# Altium schematic symbol library MCU_Microchip_PIC18.SchLib: 172 symbols (part 3 of 4)
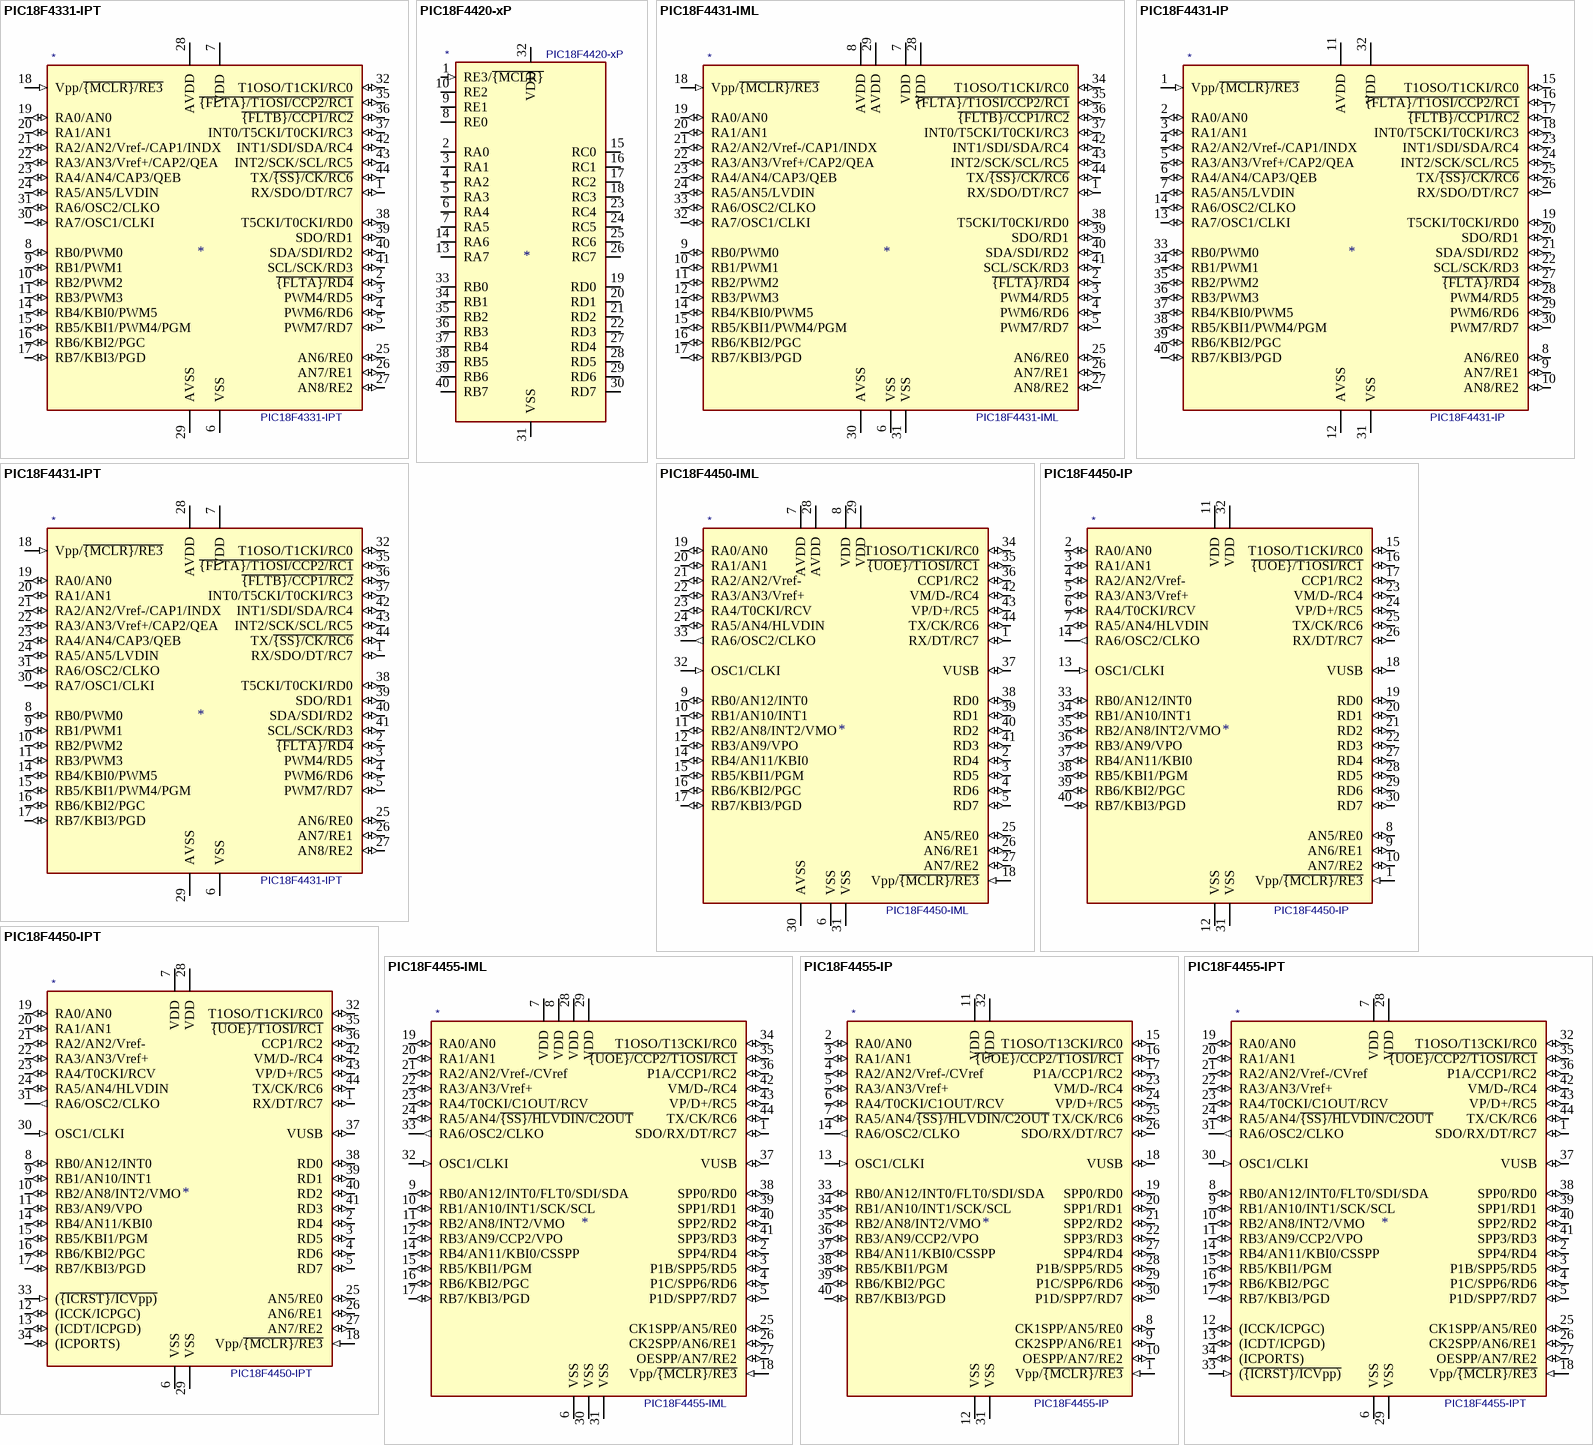
[diagram p18: symbols PIC18F4331-IPT to PIC18F4455-IPT]

## PIC18F4455-IML
designator *  value PIC18F4455-IML
ki_keywords: Flash-Based 8-Bit Microcontroller XLP; ki_description: 24K Flash, 2K SRAM, 256 EEPROM, USB, nanoWatt XLP, QFN44; ki_fp_filters: QFN*1EP*8x8mm*P0.65mm*; Footprint: Package_DFN_QFN:QFN-44-1EP_8x8mm_P0.65mm_EP6.45x6.45mm; Supplier: http://ww1.microchip.com/downloads/en/DeviceDoc/39760d.pdf
footprint QFN-44-1EP_8x8mm_P0.65mm_EP6.45x6.45mm
pins: 1 SDO/RX/DT/RC7 (io), 2 SPP4/RD4 (io), 3 P1B/SPP5/RD5 (io), 4 P1C/SPP6/RD6 (io), 5 P1D/SPP7/RD7 (io), 6 VSS (power), 7 VDD (power), 8 VDD (power), 9 RB0/AN12/INT0/FLT0/SDI/SDA (io), 10 RB1/AN10/INT1/SCK/SCL (io), 11 RB2/AN8/INT2/VMO (io), 12 RB3/AN9/CCP2/VPO (io), 13 NC (in) hidden, 14 RB4/AN11/KBI0/CSSPP (io), 15 RB5/KBI1/PGM (io), 16 RB6/KBI2/PGC (io), 17 RB7/KBI3/PGD (io), 18 Vpp/~{{MCLR}/RE3} (in), 19 RA0/AN0 (io), 20 RA1/AN1 (io), 21 RA2/AN2/Vref-/CVref (io), 22 RA3/AN3/Vref+ (io), 23 RA4/T0CKI/C1OUT/RCV (io), 24 RA5/AN4/~{{SS}/HLVDIN/C2OUT} (io), 25 CK1SPP/AN5/RE0 (io), 26 CK2SPP/AN6/RE1 (io), 27 OESPP/AN7/RE2 (io), 28 VDD (power), 29 VDD (power), 30 VSS (power), 31 VSS (power), 32 OSC1/CLKI (in), 33 RA6/OSC2/CLKO (out), 34 T1OSO/T13CKI/RC0 (io), 35 ~{{UOE}/CCP2/T1OSI/RC1} (io), 36 P1A/CCP1/RC2 (io), 37 VUSB (io), 38 SPP0/RD0 (io), 39 SPP1/RD1 (io), 40 SPP2/RD2 (io), 41 SPP3/RD3 (io), 42 VM/D-/RC4 (io), 43 VP/D+/RC5 (io), 44 TX/CK/RC6 (io)

## PIC18F4455-IP
designator *  value PIC18F4455-IP
ki_keywords: Flash-Based 8-Bit Microcontroller XLP; ki_description: 24K Flash, 2K SRAM, 256 EEPROM, USB, nanoWatt XLP, DIP40; ki_fp_filters: DIP*W15.24mm* PDIP*W15.24mm*; Footprint: Package_DIP:DIP-40_W15.24mm; Supplier: http://ww1.microchip.com/downloads/en/DeviceDoc/39760d.pdf
footprint DIP-40_W15.24mm
pins: 1 Vpp/~{{MCLR}/RE3} (in), 2 RA0/AN0 (io), 3 RA1/AN1 (io), 4 RA2/AN2/Vref-/CVref (io), 5 RA3/AN3/Vref+ (io), 6 RA4/T0CKI/C1OUT/RCV (io), 7 RA5/AN4/~{{SS}/HLVDIN/C2OUT} (io), 8 CK1SPP/AN5/RE0 (io), 9 CK2SPP/AN6/RE1 (io), 10 OESPP/AN7/RE2 (io), 11 VDD (power), 12 VSS (power), 13 OSC1/CLKI (in), 14 RA6/OSC2/CLKO (out), 15 T1OSO/T13CKI/RC0 (io), 16 ~{{UOE}/CCP2/T1OSI/RC1} (io), 17 P1A/CCP1/RC2 (io), 18 VUSB (io), 19 SPP0/RD0 (io), 20 SPP1/RD1 (io), 21 SPP2/RD2 (io), 22 SPP3/RD3 (io), 23 VM/D-/RC4 (io), 24 VP/D+/RC5 (io), 25 TX/CK/RC6 (io), 26 SDO/RX/DT/RC7 (io), 27 SPP4/RD4 (io), 28 P1B/SPP5/RD5 (io), 29 P1C/SPP6/RD6 (io), 30 P1D/SPP7/RD7 (io), 31 VSS (power), 32 VDD (power), 33 RB0/AN12/INT0/FLT0/SDI/SDA (io), 34 RB1/AN10/INT1/SCK/SCL (io), 35 RB2/AN8/INT2/VMO (io), 36 RB3/AN9/CCP2/VPO (io), 37 RB4/AN11/KBI0/CSSPP (io), 38 RB5/KBI1/PGM (io), 39 RB6/KBI2/PGC (io), 40 RB7/KBI3/PGD (io)

## PIC18F4455-IPT
designator *  value PIC18F4455-IPT
ki_keywords: Flash-Based 8-Bit Microcontroller XLP; ki_description: 24K Flash, 2K SRAM, 256 EEPROM, USB, nanoWatt XLP, TQFP44; ki_fp_filters: TQFP*10x10mm*P0.8mm*; Footprint: Package_QFP:TQFP-44_10x10mm_P0.8mm; Supplier: http://ww1.microchip.com/downloads/en/DeviceDoc/39760d.pdf
footprint TQFP-44_10x10mm_P0.8mm
pins: 1 SDO/RX/DT/RC7 (io), 2 SPP4/RD4 (io), 3 P1B/SPP5/RD5 (io), 4 P1C/SPP6/RD6 (io), 5 P1D/SPP7/RD7 (io), 6 VSS (power), 7 VDD (power), 8 RB0/AN12/INT0/FLT0/SDI/SDA (io), 9 RB1/AN10/INT1/SCK/SCL (io), 10 RB2/AN8/INT2/VMO (io), 11 RB3/AN9/CCP2/VPO (io), 12 (ICCK/ICPGC) (io), 13 (ICDT/ICPGD) (io), 14 RB4/AN11/KBI0/CSSPP (io), 15 RB5/KBI1/PGM (io), 16 RB6/KBI2/PGC (io), 17 RB7/KBI3/PGD (io), 18 Vpp/~{{MCLR}/RE3} (in), 19 RA0/AN0 (io), 20 RA1/AN1 (io), 21 RA2/AN2/Vref-/CVref (io), 22 RA3/AN3/Vref+ (io), 23 RA4/T0CKI/C1OUT/RCV (io), 24 RA5/AN4/~{{SS}/HLVDIN/C2OUT} (io), 25 CK1SPP/AN5/RE0 (io), 26 CK2SPP/AN6/RE1 (io), 27 OESPP/AN7/RE2 (io), 28 VDD (power), 29 VSS (power), 30 OSC1/CLKI (in), 31 RA6/OSC2/CLKO (out), 32 T1OSO/T13CKI/RC0 (io), 33 (~{{ICRST}/ICVpp)} (in), 34 (ICPORTS) (io), 35 ~{{UOE}/CCP2/T1OSI/RC1} (io), 36 P1A/CCP1/RC2 (io), 37 VUSB (io), 38 SPP0/RD0 (io), 39 SPP1/RD1 (io), 40 SPP2/RD2 (io), 41 SPP3/RD3 (io), 42 VM/D-/RC4 (io), 43 VP/D+/RC5 (io), 44 TX/CK/RC6 (io)

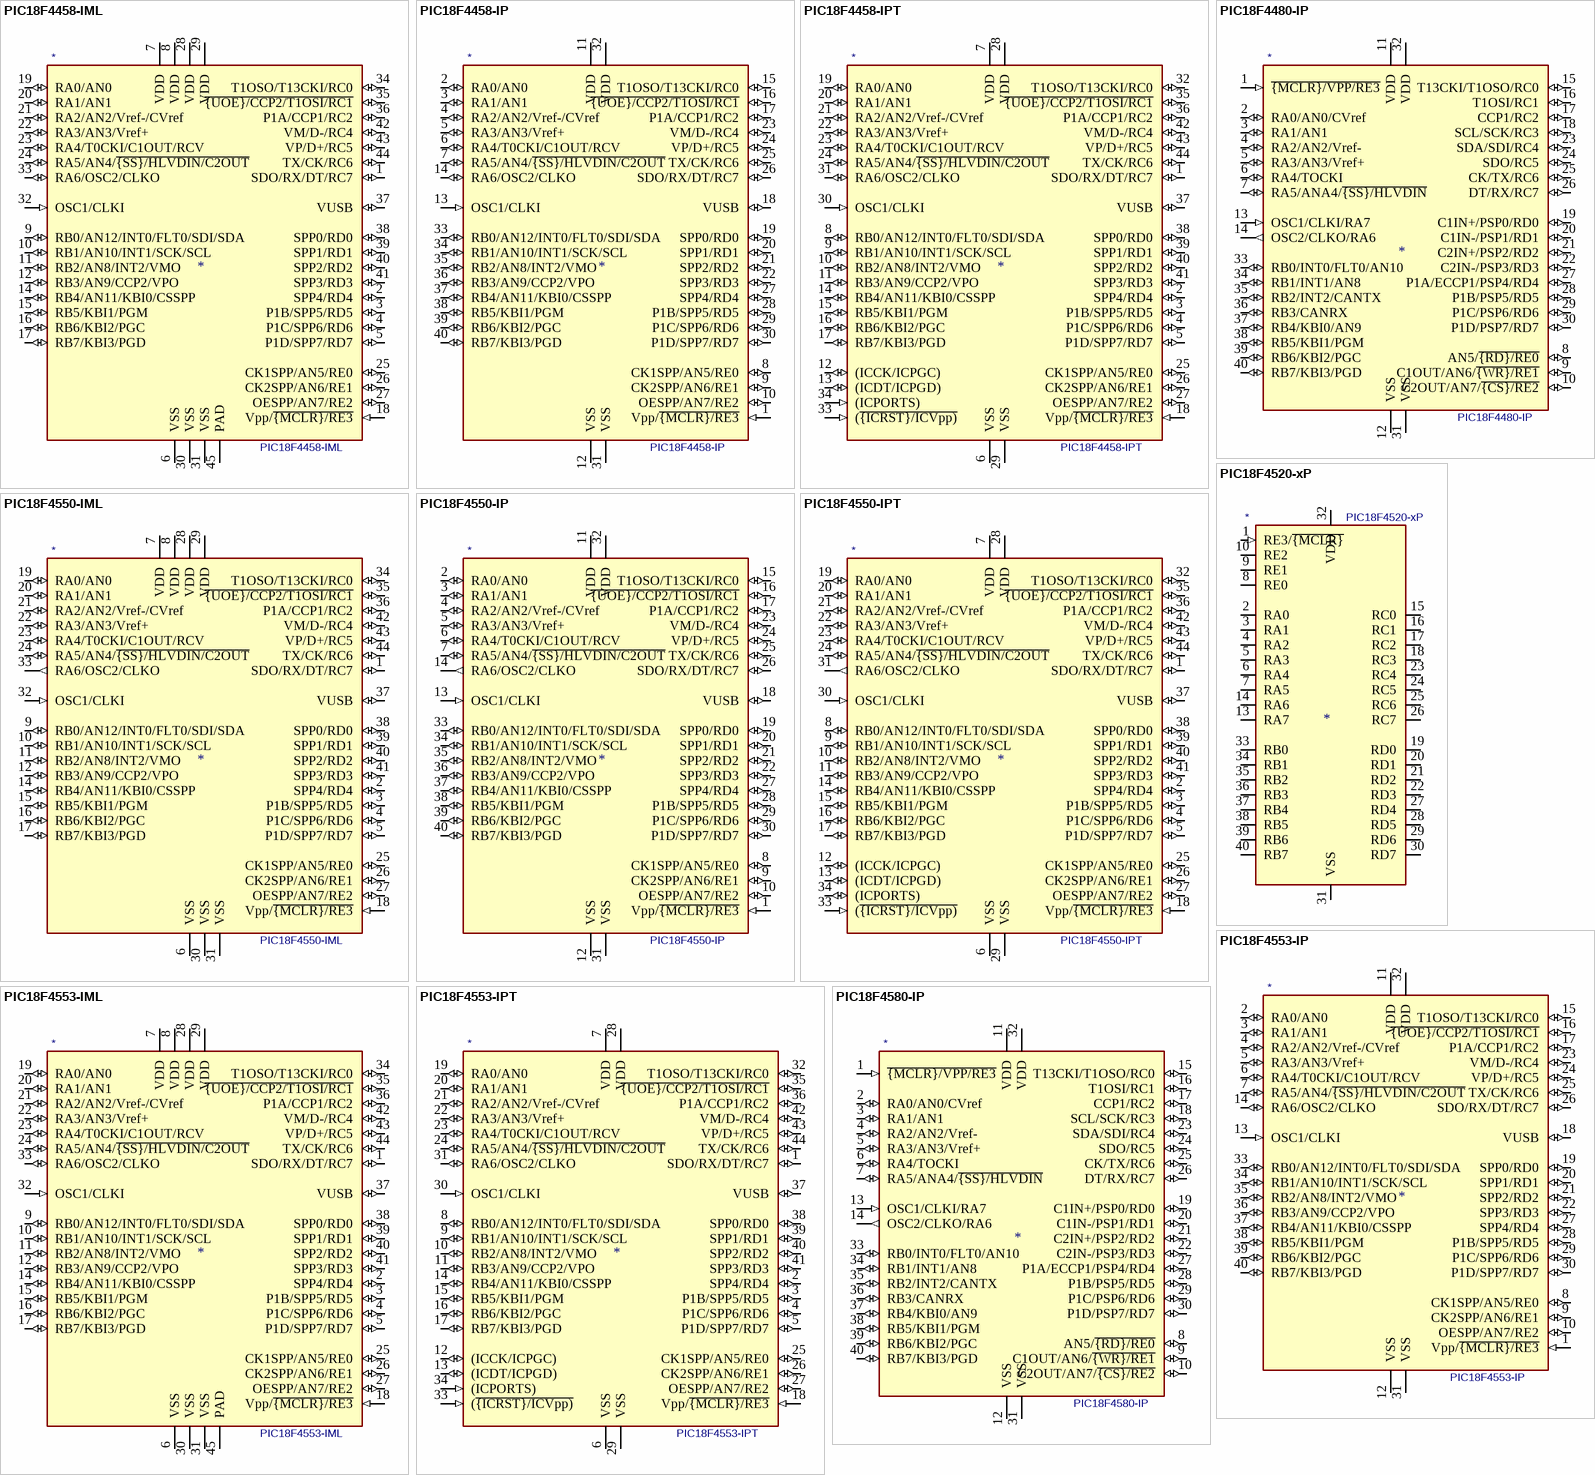
[diagram p9: symbols PIC18F4458-IML to PIC18F4580-IP]

## PIC18F4458-IML
designator *  value PIC18F4458-IML
ki_keywords: Flash-Based 8-Bit Microcontroller XLP; ki_description: 24K Flash, 2K SRAM, 256 EEPROM, USB, 12-Bit A/D, nanoWatt XLP, QFN44; ki_fp_filters: QFN*1EP*8x8mm*P0.65mm*; Footprint: Package_DFN_QFN:QFN-44-1EP_8x8mm_P0.65mm_EP6.45x6.45mm; Supplier: http://ww1.microchip.com/downloads/en/DeviceDoc/39887c.pdf
footprint QFN-44-1EP_8x8mm_P0.65mm_EP6.45x6.45mm
pins: 1 SDO/RX/DT/RC7 (io), 2 SPP4/RD4 (io), 3 P1B/SPP5/RD5 (io), 4 P1C/SPP6/RD6 (io), 5 P1D/SPP7/RD7 (io), 6 VSS (power), 7 VDD (power), 8 VDD (power), 9 RB0/AN12/INT0/FLT0/SDI/SDA (io), 10 RB1/AN10/INT1/SCK/SCL (io), 11 RB2/AN8/INT2/VMO (io), 12 RB3/AN9/CCP2/VPO (io), 13 NC (in) hidden, 14 RB4/AN11/KBI0/CSSPP (io), 15 RB5/KBI1/PGM (io), 16 RB6/KBI2/PGC (io), 17 RB7/KBI3/PGD (io), 18 Vpp/~{{MCLR}/RE3} (in), 19 RA0/AN0 (io), 20 RA1/AN1 (io), 21 RA2/AN2/Vref-/CVref (io), 22 RA3/AN3/Vref+ (io), 23 RA4/T0CKI/C1OUT/RCV (io), 24 RA5/AN4/~{{SS}/HLVDIN/C2OUT} (io), 25 CK1SPP/AN5/RE0 (io), 26 CK2SPP/AN6/RE1 (io), 27 OESPP/AN7/RE2 (io), 28 VDD (power), 29 VDD (power), 30 VSS (power), 31 VSS (power), 32 OSC1/CLKI (in), 33 RA6/OSC2/CLKO (io), 34 T1OSO/T13CKI/RC0 (io), 35 ~{{UOE}/CCP2/T1OSI/RC1} (io), 36 P1A/CCP1/RC2 (io), 37 VUSB (io), 38 SPP0/RD0 (io), 39 SPP1/RD1 (io), 40 SPP2/RD2 (io), 41 SPP3/RD3 (io), 42 VM/D-/RC4 (io), 43 VP/D+/RC5 (io), 44 TX/CK/RC6 (io), 45 PAD (power)

## PIC18F4458-IP
designator *  value PIC18F4458-IP
ki_keywords: Flash-Based 8-Bit Microcontroller XLP; ki_description: 24K Flash, 2K SRAM, 256 EEPROM, USB, 12-Bit A/D, nanoWatt XLP, DIP40; ki_fp_filters: DIP*W15.24mm* PDIP*W15.24mm*; Footprint: Package_DIP:DIP-40_W15.24mm; Supplier: http://ww1.microchip.com/downloads/en/DeviceDoc/39887c.pdf
footprint DIP-40_W15.24mm
pins: 1 Vpp/~{{MCLR}/RE3} (in), 2 RA0/AN0 (io), 3 RA1/AN1 (io), 4 RA2/AN2/Vref-/CVref (io), 5 RA3/AN3/Vref+ (io), 6 RA4/T0CKI/C1OUT/RCV (io), 7 RA5/AN4/~{{SS}/HLVDIN/C2OUT} (io), 8 CK1SPP/AN5/RE0 (io), 9 CK2SPP/AN6/RE1 (io), 10 OESPP/AN7/RE2 (io), 11 VDD (power), 12 VSS (power), 13 OSC1/CLKI (in), 14 RA6/OSC2/CLKO (io), 15 T1OSO/T13CKI/RC0 (io), 16 ~{{UOE}/CCP2/T1OSI/RC1} (io), 17 P1A/CCP1/RC2 (io), 18 VUSB (io), 19 SPP0/RD0 (io), 20 SPP1/RD1 (io), 21 SPP2/RD2 (io), 22 SPP3/RD3 (io), 23 VM/D-/RC4 (io), 24 VP/D+/RC5 (io), 25 TX/CK/RC6 (io), 26 SDO/RX/DT/RC7 (io), 27 SPP4/RD4 (io), 28 P1B/SPP5/RD5 (io), 29 P1C/SPP6/RD6 (io), 30 P1D/SPP7/RD7 (io), 31 VSS (power), 32 VDD (power), 33 RB0/AN12/INT0/FLT0/SDI/SDA (io), 34 RB1/AN10/INT1/SCK/SCL (io), 35 RB2/AN8/INT2/VMO (io), 36 RB3/AN9/CCP2/VPO (io), 37 RB4/AN11/KBI0/CSSPP (io), 38 RB5/KBI1/PGM (io), 39 RB6/KBI2/PGC (io), 40 RB7/KBI3/PGD (io)

## PIC18F4458-IPT
designator *  value PIC18F4458-IPT
ki_keywords: Flash-Based 8-Bit Microcontroller XLP; ki_description: 24K Flash, 2K SRAM, 256 EEPROM, USB, 12-Bit A/D, nanoWatt XLP, TQFP44; ki_fp_filters: TQFP*10x10mm*P0.8mm*; Footprint: Package_QFP:TQFP-44_10x10mm_P0.8mm; Supplier: http://ww1.microchip.com/downloads/en/DeviceDoc/39887c.pdf
footprint TQFP-44_10x10mm_P0.8mm
pins: 1 SDO/RX/DT/RC7 (io), 2 SPP4/RD4 (io), 3 P1B/SPP5/RD5 (io), 4 P1C/SPP6/RD6 (io), 5 P1D/SPP7/RD7 (io), 6 VSS (power), 7 VDD (power), 8 RB0/AN12/INT0/FLT0/SDI/SDA (io), 9 RB1/AN10/INT1/SCK/SCL (io), 10 RB2/AN8/INT2/VMO (io), 11 RB3/AN9/CCP2/VPO (io), 12 (ICCK/ICPGC) (io), 13 (ICDT/ICPGD) (io), 14 RB4/AN11/KBI0/CSSPP (io), 15 RB5/KBI1/PGM (io), 16 RB6/KBI2/PGC (io), 17 RB7/KBI3/PGD (io), 18 Vpp/~{{MCLR}/RE3} (in), 19 RA0/AN0 (io), 20 RA1/AN1 (io), 21 RA2/AN2/Vref-/CVref (io), 22 RA3/AN3/Vref+ (io), 23 RA4/T0CKI/C1OUT/RCV (io), 24 RA5/AN4/~{{SS}/HLVDIN/C2OUT} (io), 25 CK1SPP/AN5/RE0 (io), 26 CK2SPP/AN6/RE1 (io), 27 OESPP/AN7/RE2 (io), 28 VDD (power), 29 VSS (power), 30 OSC1/CLKI (in), 31 RA6/OSC2/CLKO (io), 32 T1OSO/T13CKI/RC0 (io), 33 (~{{ICRST}/ICVpp)} (in), 34 (ICPORTS) (in), 35 ~{{UOE}/CCP2/T1OSI/RC1} (io), 36 P1A/CCP1/RC2 (io), 37 VUSB (io), 38 SPP0/RD0 (io), 39 SPP1/RD1 (io), 40 SPP2/RD2 (io), 41 SPP3/RD3 (io), 42 VM/D-/RC4 (io), 43 VP/D+/RC5 (io), 44 TX/CK/RC6 (io)

## PIC18F4480-IP
designator *  value PIC18F4480-IP
ki_keywords: Flash-Based 8-Bit Microcontroller CAN; ki_description: 32K Flash, 768B SRAM, 256 EEPROM, ECAN, DIP40; ki_fp_filters: DIP*W15.24mm* PDIP*W15.24mm*; Footprint: Package_DIP:DIP-40_W15.24mm; Supplier: http://ww1.microchip.com/downloads/en/DeviceDoc/39637d.pdf
footprint DIP-40_W15.24mm
pins: 1 ~{{MCLR}/VPP/RE3} (in), 2 RA0/AN0/CVref (io), 3 RA1/AN1 (io), 4 RA2/AN2/Vref- (io), 5 RA3/AN3/Vref+ (io), 6 RA4/TOCKI (io), 7 RA5/ANA4/~{{SS}/HLVDIN} (io), 8 AN5/~{{RD}/RE0} (io), 9 C1OUT/AN6/~{{WR}/RE1} (io), 10 C2OUT/AN7/~{{CS}/RE2} (io), 11 VDD (power), 12 VSS (power), 13 OSC1/CLKI/RA7 (in), 14 OSC2/CLKO/RA6 (out), 15 T13CKI/T1OSO/RC0 (io), 16 T1OSI/RC1 (io), 17 CCP1/RC2 (io), 18 SCL/SCK/RC3 (io), 19 C1IN+/PSP0/RD0 (io), 20 C1IN-/PSP1/RD1 (io), 21 C2IN+/PSP2/RD2 (io), 22 C2IN-/PSP3/RD3 (io), 23 SDA/SDI/RC4 (io), 24 SDO/RC5 (io), 25 CK/TX/RC6 (io), 26 DT/RX/RC7 (io), 27 P1A/ECCP1/PSP4/RD4 (io), 28 P1B/PSP5/RD5 (io), 29 P1C/PSP6/RD6 (io), 30 P1D/PSP7/RD7 (io), 31 VSS (power), 32 VDD (power), 33 RB0/INT0/FLT0/AN10 (io), 34 RB1/INT1/AN8 (io), 35 RB2/INT2/CANTX (io), 36 RB3/CANRX (io), 37 RB4/KBI0/AN9 (io), 38 RB5/KBI1/PGM (io), 39 RB6/KBI2/PGC (io), 40 RB7/KBI3/PGD (io)

## PIC18F4520-xP
designator *  value PIC18F4520-xP
ki_keywords: 32K Flash, 1536b SRAM, 256b EEPROM, ADC; ki_description: 32K Flash, 1536b SRAM, 256b EEPROM, ADC, DIP-40; ki_fp_filters: DIP*W15.24mm*; Footprint: Package_DIP:DIP-40_W15.24mm; Supplier: http://ww1.microchip.com/downloads/en/DeviceDoc/39631E.pdf
footprint DIP-40_W15.24mm
pins: 1 RE3/~{{MCLR}} (in), 2 RA0 (io), 3 RA1 (io), 4 RA2 (io), 5 RA3 (io), 6 RA4 (io), 7 RA5 (io), 8 RE0 (io), 9 RE1 (io), 10 RE2 (io), 11 VDD hidden, 12 VSS hidden, 13 RA7 (io), 14 RA6 (io), 15 RC0 (io), 16 RC1 (io), 17 RC2 (io), 18 RC3 (io), 19 RD0 (io), 20 RD1 (io), 21 RD2 (io), 22 RD3 (io), 23 RC4 (io), 24 RC5 (io), 25 RC6 (io), 26 RC7 (io), 27 RD4 (io), 28 RD5 (io), 29 RD6 (io), 30 RD7 (io), 31 VSS (power), 32 VDD (power), 33 RB0 (io), 34 RB1 (io), 35 RB2 (io), 36 RB3 (io), 37 RB4 (io), 38 RB5 (io), 39 RB6 (io), 40 RB7 (io)

## PIC18F4550-IML
designator *  value PIC18F4550-IML
ki_keywords: Flash-Based 8-Bit Microcontroller XLP; ki_description: 32K Flash, 2K SRAM, 256 EEPROM, USB, nanoWatt XLP, QFN44; ki_fp_filters: QFN*1EP*8x8mm*P0.65mm*; Footprint: Package_DFN_QFN:QFN-44-1EP_8x8mm_P0.65mm_EP6.45x6.45mm; Supplier: http://ww1.microchip.com/downloads/en/DeviceDoc/39760d.pdf
footprint QFN-44-1EP_8x8mm_P0.65mm_EP6.45x6.45mm
pins: 1 SDO/RX/DT/RC7 (io), 2 SPP4/RD4 (io), 3 P1B/SPP5/RD5 (io), 4 P1C/SPP6/RD6 (io), 5 P1D/SPP7/RD7 (io), 6 VSS (power), 7 VDD (power), 8 VDD (power), 9 RB0/AN12/INT0/FLT0/SDI/SDA (io), 10 RB1/AN10/INT1/SCK/SCL (io), 11 RB2/AN8/INT2/VMO (io), 12 RB3/AN9/CCP2/VPO (io), 13 NC (in) hidden, 14 RB4/AN11/KBI0/CSSPP (io), 15 RB5/KBI1/PGM (io), 16 RB6/KBI2/PGC (io), 17 RB7/KBI3/PGD (io), 18 Vpp/~{{MCLR}/RE3} (in), 19 RA0/AN0 (io), 20 RA1/AN1 (io), 21 RA2/AN2/Vref-/CVref (io), 22 RA3/AN3/Vref+ (io), 23 RA4/T0CKI/C1OUT/RCV (io), 24 RA5/AN4/~{{SS}/HLVDIN/C2OUT} (io), 25 CK1SPP/AN5/RE0 (io), 26 CK2SPP/AN6/RE1 (io), 27 OESPP/AN7/RE2 (io), 28 VDD (power), 29 VDD (power), 30 VSS (power), 31 VSS (power), 32 OSC1/CLKI (in), 33 RA6/OSC2/CLKO (out), 34 T1OSO/T13CKI/RC0 (io), 35 ~{{UOE}/CCP2/T1OSI/RC1} (io), 36 P1A/CCP1/RC2 (io), 37 VUSB (io), 38 SPP0/RD0 (io), 39 SPP1/RD1 (io), 40 SPP2/RD2 (io), 41 SPP3/RD3 (io), 42 VM/D-/RC4 (io), 43 VP/D+/RC5 (io), 44 TX/CK/RC6 (io)

## PIC18F4550-IP
designator *  value PIC18F4550-IP
ki_keywords: Flash-Based 8-Bit Microcontroller XLP; ki_description: 32K Flash, 2K SRAM, 256 EEPROM, USB, nanoWatt XLP, DIP40; ki_fp_filters: DIP*W15.24mm* PDIP*W15.24mm*; Footprint: Package_DIP:DIP-40_W15.24mm; Supplier: http://ww1.microchip.com/downloads/en/DeviceDoc/39760d.pdf
footprint DIP-40_W15.24mm
pins: 1 Vpp/~{{MCLR}/RE3} (in), 2 RA0/AN0 (io), 3 RA1/AN1 (io), 4 RA2/AN2/Vref-/CVref (io), 5 RA3/AN3/Vref+ (io), 6 RA4/T0CKI/C1OUT/RCV (io), 7 RA5/AN4/~{{SS}/HLVDIN/C2OUT} (io), 8 CK1SPP/AN5/RE0 (io), 9 CK2SPP/AN6/RE1 (io), 10 OESPP/AN7/RE2 (io), 11 VDD (power), 12 VSS (power), 13 OSC1/CLKI (in), 14 RA6/OSC2/CLKO (out), 15 T1OSO/T13CKI/RC0 (io), 16 ~{{UOE}/CCP2/T1OSI/RC1} (io), 17 P1A/CCP1/RC2 (io), 18 VUSB (io), 19 SPP0/RD0 (io), 20 SPP1/RD1 (io), 21 SPP2/RD2 (io), 22 SPP3/RD3 (io), 23 VM/D-/RC4 (io), 24 VP/D+/RC5 (io), 25 TX/CK/RC6 (io), 26 SDO/RX/DT/RC7 (io), 27 SPP4/RD4 (io), 28 P1B/SPP5/RD5 (io), 29 P1C/SPP6/RD6 (io), 30 P1D/SPP7/RD7 (io), 31 VSS (power), 32 VDD (power), 33 RB0/AN12/INT0/FLT0/SDI/SDA (io), 34 RB1/AN10/INT1/SCK/SCL (io), 35 RB2/AN8/INT2/VMO (io), 36 RB3/AN9/CCP2/VPO (io), 37 RB4/AN11/KBI0/CSSPP (io), 38 RB5/KBI1/PGM (io), 39 RB6/KBI2/PGC (io), 40 RB7/KBI3/PGD (io)

## PIC18F4550-IPT
designator *  value PIC18F4550-IPT
ki_keywords: Flash-Based 8-Bit Microcontroller XLP; ki_description: 32K Flash, 2K SRAM, 256 EEPROM, USB, nanoWatt XLP, TQFP44; ki_fp_filters: TQFP*10x10mm*P0.8mm*; Footprint: Package_QFP:TQFP-44_10x10mm_P0.8mm; Supplier: http://ww1.microchip.com/downloads/en/DeviceDoc/39760d.pdf
footprint TQFP-44_10x10mm_P0.8mm
pins: 1 SDO/RX/DT/RC7 (io), 2 SPP4/RD4 (io), 3 P1B/SPP5/RD5 (io), 4 P1C/SPP6/RD6 (io), 5 P1D/SPP7/RD7 (io), 6 VSS (power), 7 VDD (power), 8 RB0/AN12/INT0/FLT0/SDI/SDA (io), 9 RB1/AN10/INT1/SCK/SCL (io), 10 RB2/AN8/INT2/VMO (io), 11 RB3/AN9/CCP2/VPO (io), 12 (ICCK/ICPGC) (io), 13 (ICDT/ICPGD) (io), 14 RB4/AN11/KBI0/CSSPP (io), 15 RB5/KBI1/PGM (io), 16 RB6/KBI2/PGC (io), 17 RB7/KBI3/PGD (io), 18 Vpp/~{{MCLR}/RE3} (in), 19 RA0/AN0 (io), 20 RA1/AN1 (io), 21 RA2/AN2/Vref-/CVref (io), 22 RA3/AN3/Vref+ (io), 23 RA4/T0CKI/C1OUT/RCV (io), 24 RA5/AN4/~{{SS}/HLVDIN/C2OUT} (io), 25 CK1SPP/AN5/RE0 (io), 26 CK2SPP/AN6/RE1 (io), 27 OESPP/AN7/RE2 (io), 28 VDD (power), 29 VSS (power), 30 OSC1/CLKI (in), 31 RA6/OSC2/CLKO (out), 32 T1OSO/T13CKI/RC0 (io), 33 (~{{ICRST}/ICVpp)} (in), 34 (ICPORTS) (io), 35 ~{{UOE}/CCP2/T1OSI/RC1} (io), 36 P1A/CCP1/RC2 (io), 37 VUSB (io), 38 SPP0/RD0 (io), 39 SPP1/RD1 (io), 40 SPP2/RD2 (io), 41 SPP3/RD3 (io), 42 VM/D-/RC4 (io), 43 VP/D+/RC5 (io), 44 TX/CK/RC6 (io)

## PIC18F4553-IML
designator *  value PIC18F4553-IML
ki_keywords: Flash-Based 8-Bit Microcontroller XLP; ki_description: 32K Flash, 2K SRAM, 256 EEPROM, USB, 12-Bit A/D, nanoWatt XLP, QFN44; ki_fp_filters: QFN*1EP*8x8mm*P0.65mm*; Footprint: Package_DFN_QFN:QFN-44-1EP_8x8mm_P0.65mm_EP6.45x6.45mm; Supplier: http://ww1.microchip.com/downloads/en/DeviceDoc/39887c.pdf
footprint QFN-44-1EP_8x8mm_P0.65mm_EP6.45x6.45mm
pins: 1 SDO/RX/DT/RC7 (io), 2 SPP4/RD4 (io), 3 P1B/SPP5/RD5 (io), 4 P1C/SPP6/RD6 (io), 5 P1D/SPP7/RD7 (io), 6 VSS (power), 7 VDD (power), 8 VDD (power), 9 RB0/AN12/INT0/FLT0/SDI/SDA (io), 10 RB1/AN10/INT1/SCK/SCL (io), 11 RB2/AN8/INT2/VMO (io), 12 RB3/AN9/CCP2/VPO (io), 13 NC (in) hidden, 14 RB4/AN11/KBI0/CSSPP (io), 15 RB5/KBI1/PGM (io), 16 RB6/KBI2/PGC (io), 17 RB7/KBI3/PGD (io), 18 Vpp/~{{MCLR}/RE3} (in), 19 RA0/AN0 (io), 20 RA1/AN1 (io), 21 RA2/AN2/Vref-/CVref (io), 22 RA3/AN3/Vref+ (io), 23 RA4/T0CKI/C1OUT/RCV (io), 24 RA5/AN4/~{{SS}/HLVDIN/C2OUT} (io), 25 CK1SPP/AN5/RE0 (io), 26 CK2SPP/AN6/RE1 (io), 27 OESPP/AN7/RE2 (io), 28 VDD (power), 29 VDD (power), 30 VSS (power), 31 VSS (power), 32 OSC1/CLKI (in), 33 RA6/OSC2/CLKO (io), 34 T1OSO/T13CKI/RC0 (io), 35 ~{{UOE}/CCP2/T1OSI/RC1} (io), 36 P1A/CCP1/RC2 (io), 37 VUSB (io), 38 SPP0/RD0 (io), 39 SPP1/RD1 (io), 40 SPP2/RD2 (io), 41 SPP3/RD3 (io), 42 VM/D-/RC4 (io), 43 VP/D+/RC5 (io), 44 TX/CK/RC6 (io), 45 PAD (power)

## PIC18F4553-IP
designator *  value PIC18F4553-IP
ki_keywords: Flash-Based 8-Bit Microcontroller XLP; ki_description: 32K Flash, 2K SRAM, 256 EEPROM, USB, 12-Bit A/D, nanoWatt XLP, DIP40; ki_fp_filters: DIP*W15.24mm* PDIP*W15.24mm*; Footprint: Package_DIP:DIP-40_W15.24mm; Supplier: http://ww1.microchip.com/downloads/en/DeviceDoc/39887c.pdf
footprint DIP-40_W15.24mm
pins: 1 Vpp/~{{MCLR}/RE3} (in), 2 RA0/AN0 (io), 3 RA1/AN1 (io), 4 RA2/AN2/Vref-/CVref (io), 5 RA3/AN3/Vref+ (io), 6 RA4/T0CKI/C1OUT/RCV (io), 7 RA5/AN4/~{{SS}/HLVDIN/C2OUT} (io), 8 CK1SPP/AN5/RE0 (io), 9 CK2SPP/AN6/RE1 (io), 10 OESPP/AN7/RE2 (io), 11 VDD (power), 12 VSS (power), 13 OSC1/CLKI (in), 14 RA6/OSC2/CLKO (io), 15 T1OSO/T13CKI/RC0 (io), 16 ~{{UOE}/CCP2/T1OSI/RC1} (io), 17 P1A/CCP1/RC2 (io), 18 VUSB (io), 19 SPP0/RD0 (io), 20 SPP1/RD1 (io), 21 SPP2/RD2 (io), 22 SPP3/RD3 (io), 23 VM/D-/RC4 (io), 24 VP/D+/RC5 (io), 25 TX/CK/RC6 (io), 26 SDO/RX/DT/RC7 (io), 27 SPP4/RD4 (io), 28 P1B/SPP5/RD5 (io), 29 P1C/SPP6/RD6 (io), 30 P1D/SPP7/RD7 (io), 31 VSS (power), 32 VDD (power), 33 RB0/AN12/INT0/FLT0/SDI/SDA (io), 34 RB1/AN10/INT1/SCK/SCL (io), 35 RB2/AN8/INT2/VMO (io), 36 RB3/AN9/CCP2/VPO (io), 37 RB4/AN11/KBI0/CSSPP (io), 38 RB5/KBI1/PGM (io), 39 RB6/KBI2/PGC (io), 40 RB7/KBI3/PGD (io)

## PIC18F4553-IPT
designator *  value PIC18F4553-IPT
ki_keywords: Flash-Based 8-Bit Microcontroller XLP; ki_description: 32K Flash, 2K SRAM, 256 EEPROM, USB, 12-Bit A/D, nanoWatt XLP, TQFP44; ki_fp_filters: TQFP*10x10mm*P0.8mm*; Footprint: Package_QFP:TQFP-44_10x10mm_P0.8mm; Supplier: http://ww1.microchip.com/downloads/en/DeviceDoc/39887c.pdf
footprint TQFP-44_10x10mm_P0.8mm
pins: 1 SDO/RX/DT/RC7 (io), 2 SPP4/RD4 (io), 3 P1B/SPP5/RD5 (io), 4 P1C/SPP6/RD6 (io), 5 P1D/SPP7/RD7 (io), 6 VSS (power), 7 VDD (power), 8 RB0/AN12/INT0/FLT0/SDI/SDA (io), 9 RB1/AN10/INT1/SCK/SCL (io), 10 RB2/AN8/INT2/VMO (io), 11 RB3/AN9/CCP2/VPO (io), 12 (ICCK/ICPGC) (io), 13 (ICDT/ICPGD) (io), 14 RB4/AN11/KBI0/CSSPP (io), 15 RB5/KBI1/PGM (io), 16 RB6/KBI2/PGC (io), 17 RB7/KBI3/PGD (io), 18 Vpp/~{{MCLR}/RE3} (in), 19 RA0/AN0 (io), 20 RA1/AN1 (io), 21 RA2/AN2/Vref-/CVref (io), 22 RA3/AN3/Vref+ (io), 23 RA4/T0CKI/C1OUT/RCV (io), 24 RA5/AN4/~{{SS}/HLVDIN/C2OUT} (io), 25 CK1SPP/AN5/RE0 (io), 26 CK2SPP/AN6/RE1 (io), 27 OESPP/AN7/RE2 (io), 28 VDD (power), 29 VSS (power), 30 OSC1/CLKI (in), 31 RA6/OSC2/CLKO (io), 32 T1OSO/T13CKI/RC0 (io), 33 (~{{ICRST}/ICVpp)} (in), 34 (ICPORTS) (in), 35 ~{{UOE}/CCP2/T1OSI/RC1} (io), 36 P1A/CCP1/RC2 (io), 37 VUSB (io), 38 SPP0/RD0 (io), 39 SPP1/RD1 (io), 40 SPP2/RD2 (io), 41 SPP3/RD3 (io), 42 VM/D-/RC4 (io), 43 VP/D+/RC5 (io), 44 TX/CK/RC6 (io)

## PIC18F4580-IP
designator *  value PIC18F4580-IP
ki_keywords: Flash-Based 8-Bit Microcontroller CAN; ki_description: 32K Flash, 1536B SRAM, 256 EEPROM, ECAN, DIP40; ki_fp_filters: DIP*W15.24mm* PDIP*W15.24mm*; Footprint: Package_DIP:DIP-40_W15.24mm; Supplier: http://ww1.microchip.com/downloads/en/DeviceDoc/39637d.pdf
footprint DIP-40_W15.24mm
pins: 1 ~{{MCLR}/VPP/RE3} (in), 2 RA0/AN0/CVref (io), 3 RA1/AN1 (io), 4 RA2/AN2/Vref- (io), 5 RA3/AN3/Vref+ (io), 6 RA4/TOCKI (io), 7 RA5/ANA4/~{{SS}/HLVDIN} (io), 8 AN5/~{{RD}/RE0} (io), 9 C1OUT/AN6/~{{WR}/RE1} (io), 10 C2OUT/AN7/~{{CS}/RE2} (io), 11 VDD (power), 12 VSS (power), 13 OSC1/CLKI/RA7 (in), 14 OSC2/CLKO/RA6 (out), 15 T13CKI/T1OSO/RC0 (io), 16 T1OSI/RC1 (io), 17 CCP1/RC2 (io), 18 SCL/SCK/RC3 (io), 19 C1IN+/PSP0/RD0 (io), 20 C1IN-/PSP1/RD1 (io), 21 C2IN+/PSP2/RD2 (io), 22 C2IN-/PSP3/RD3 (io), 23 SDA/SDI/RC4 (io), 24 SDO/RC5 (io), 25 CK/TX/RC6 (io), 26 DT/RX/RC7 (io), 27 P1A/ECCP1/PSP4/RD4 (io), 28 P1B/PSP5/RD5 (io), 29 P1C/PSP6/RD6 (io), 30 P1D/PSP7/RD7 (io), 31 VSS (power), 32 VDD (power), 33 RB0/INT0/FLT0/AN10 (io), 34 RB1/INT1/AN8 (io), 35 RB2/INT2/CANTX (io), 36 RB3/CANRX (io), 37 RB4/KBI0/AN9 (io), 38 RB5/KBI1/PGM (io), 39 RB6/KBI2/PGC (io), 40 RB7/KBI3/PGD (io)

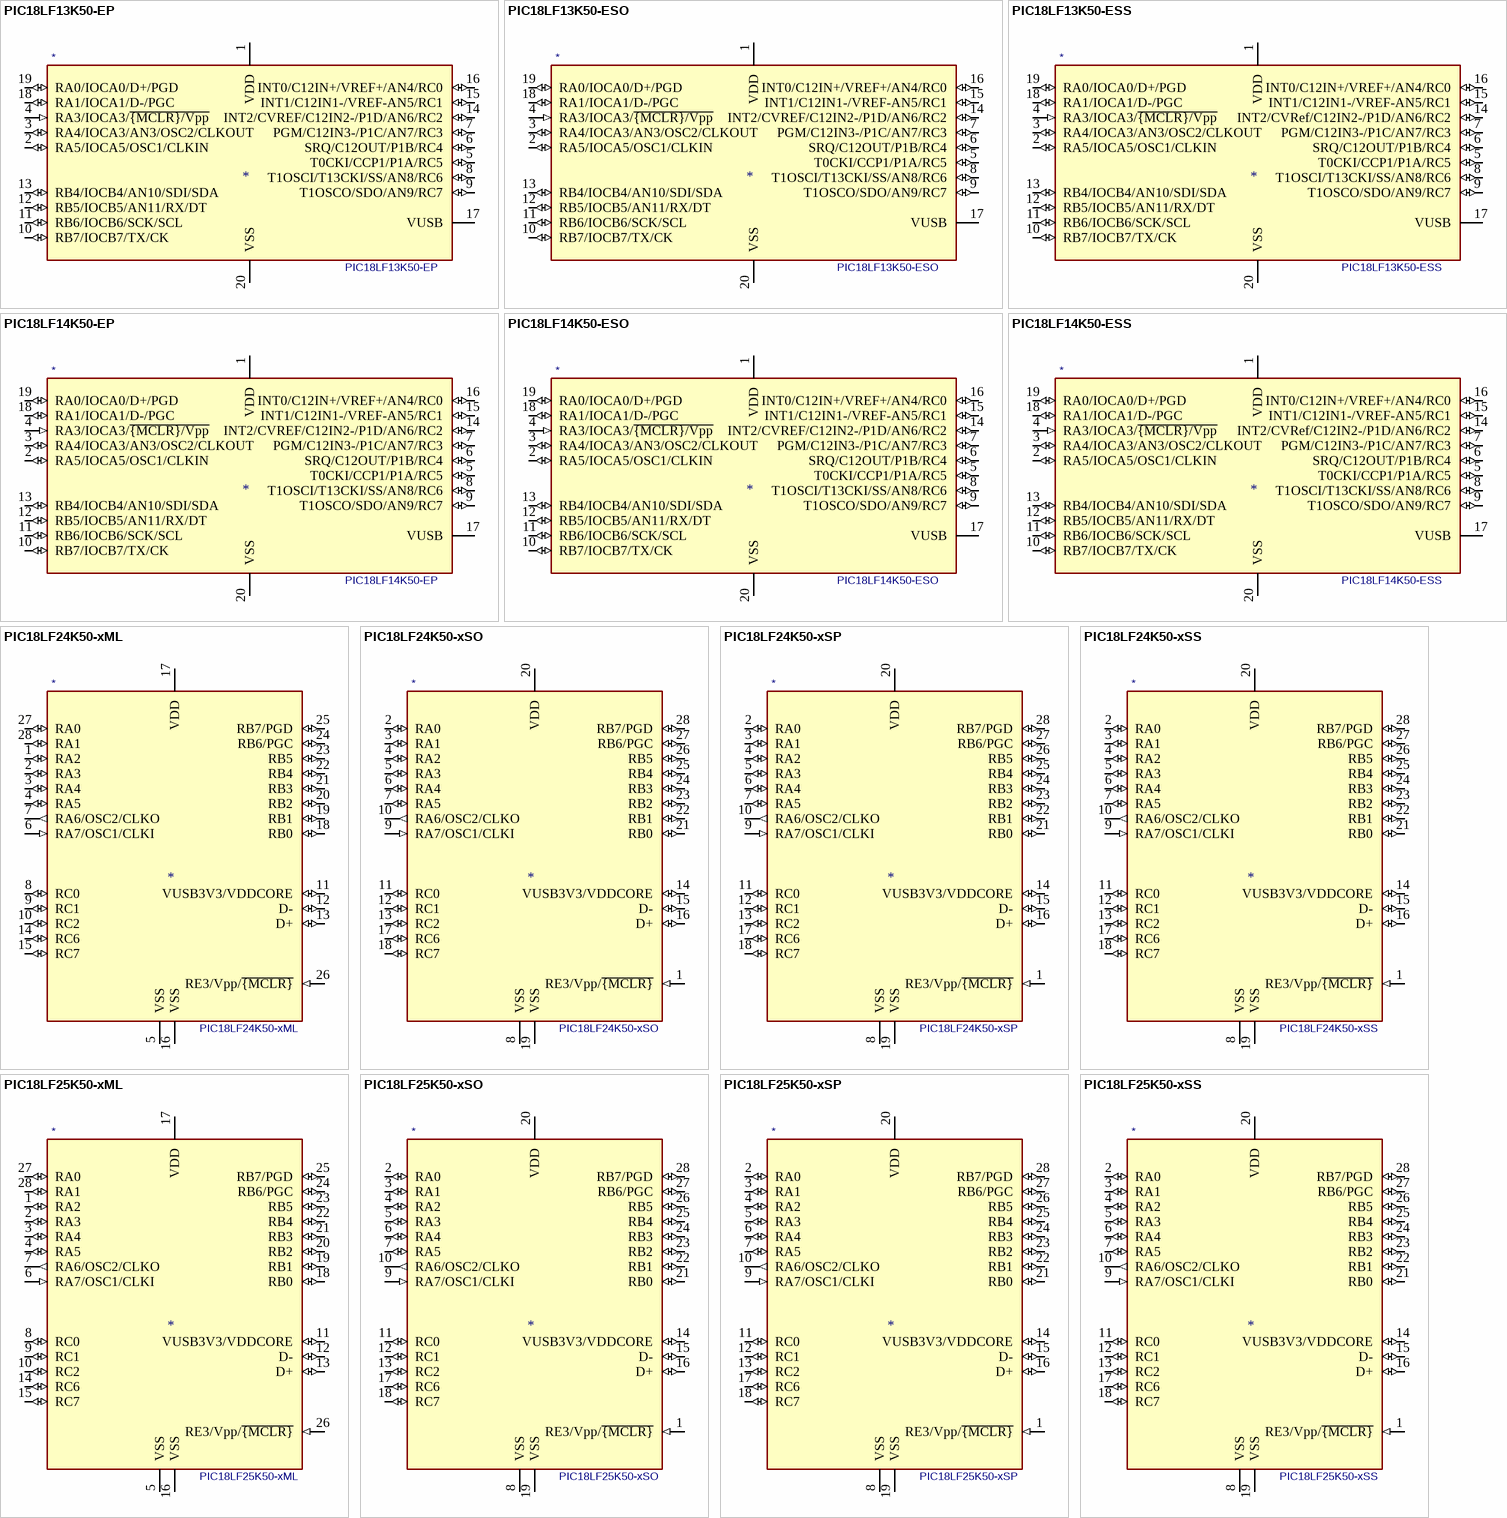
[diagram p10: symbols PIC18LF13K50-EP to PIC18LF25K50-xSS]

## PIC18LF13K50-EP
designator *  value PIC18LF13K50-EP
ki_keywords: Flash-Based 8bit CMOS Microcontroller XLP; ki_description: 8K Flash, 512 SRAM, 256 EEPROM, USB, nanoWatt XLP, DIP20; ki_fp_filters: DIP*W7.62mm* PDIP*W7.62mm*; Footprint: Package_DIP:DIP-20_W7.62mm; Supplier: http://ww1.microchip.com/downloads/en/devicedoc/41350c.pdf
footprint DIP-20_W7.62mm
pins: 1 VDD (power), 2 RA5/IOCA5/OSC1/CLKIN (io), 3 RA4/IOCA3/AN3/OSC2/CLKOUT (io), 4 RA3/IOCA3/~{{MCLR}/Vpp} (in), 5 T0CKI/CCP1/P1A/RC5 (io), 6 SRQ/C12OUT/P1B/RC4 (io), 7 PGM/C12IN3-/P1C/AN7/RC3 (io), 8 T1OSCI/T13CKI/SS/AN8/RC6 (io), 9 T1OSCO/SDO/AN9/RC7 (io), 10 RB7/IOCB7/TX/CK (io), 11 RB6/IOCB6/SCK/SCL (io), 12 RB5/IOCB5/AN11/RX/DT (io), 13 RB4/IOCB4/AN10/SDI/SDA (io), 14 INT2/CVREF/C12IN2-/P1D/AN6/RC2 (io), 15 INT1/C12IN1-/VREF-AN5/RC1 (io), 16 INT0/C12IN+/VREF+/AN4/RC0 (io), 17 VUSB, 18 RA1/IOCA1/D-/PGC (io), 19 RA0/IOCA0/D+/PGD (io), 20 VSS (power)

## PIC18LF13K50-ESO
designator *  value PIC18LF13K50-ESO
ki_keywords: Flash-Based 8bit CMOS Microcontroller XLP; ki_description: 8K Flash, 512 SRAM, 256 EEPROM, USB, nanoWatt XLP, SOIC20; ki_fp_filters: SOIC*W*7.5x12.8mm*P1.27mm*; Footprint: Package_SO:SOIC-20W_7.5x12.8mm_P1.27mm; Supplier: http://ww1.microchip.com/downloads/en/devicedoc/41350c.pdf
footprint SOIC-20W_7.5x12.8mm_P1.27mm
pins: 1 VDD (power), 2 RA5/IOCA5/OSC1/CLKIN (io), 3 RA4/IOCA3/AN3/OSC2/CLKOUT (io), 4 RA3/IOCA3/~{{MCLR}/Vpp} (in), 5 T0CKI/CCP1/P1A/RC5 (io), 6 SRQ/C12OUT/P1B/RC4 (io), 7 PGM/C12IN3-/P1C/AN7/RC3 (io), 8 T1OSCI/T13CKI/SS/AN8/RC6 (io), 9 T1OSCO/SDO/AN9/RC7 (io), 10 RB7/IOCB7/TX/CK (io), 11 RB6/IOCB6/SCK/SCL (io), 12 RB5/IOCB5/AN11/RX/DT (io), 13 RB4/IOCB4/AN10/SDI/SDA (io), 14 INT2/CVREF/C12IN2-/P1D/AN6/RC2 (io), 15 INT1/C12IN1-/VREF-AN5/RC1 (io), 16 INT0/C12IN+/VREF+/AN4/RC0 (io), 17 VUSB, 18 RA1/IOCA1/D-/PGC (io), 19 RA0/IOCA0/D+/PGD (io), 20 VSS (power)

## PIC18LF13K50-ESS
designator *  value PIC18LF13K50-ESS
ki_keywords: Flash-Based 8bit CMOS Microcontroller XLP; ki_description: 8K Flash, 512 SRAM, 256 EEPROM, USB, nanoWatt XLP, SSOP20; ki_fp_filters: SSOP*5.3x7.2mm*P0.65mm*; Footprint: Package_SO:SSOP-20_5.3x7.2mm_P0.65mm; Supplier: http://ww1.microchip.com/downloads/en/devicedoc/41350c.pdf
footprint SSOP-20_5.3x7.2mm_P0.65mm
pins: 1 VDD (power), 2 RA5/IOCA5/OSC1/CLKIN (io), 3 RA4/IOCA3/AN3/OSC2/CLKOUT (io), 4 RA3/IOCA3/~{{MCLR}/Vpp} (in), 5 T0CKI/CCP1/P1A/RC5 (io), 6 SRQ/C12OUT/P1B/RC4 (io), 7 PGM/C12IN3-/P1C/AN7/RC3 (io), 8 T1OSCI/T13CKI/SS/AN8/RC6 (io), 9 T1OSCO/SDO/AN9/RC7 (io), 10 RB7/IOCB7/TX/CK (io), 11 RB6/IOCB6/SCK/SCL (io), 12 RB5/IOCB5/AN11/RX/DT (io), 13 RB4/IOCB4/AN10/SDI/SDA (io), 14 INT2/CVRef/C12IN2-/P1D/AN6/RC2 (io), 15 INT1/C12IN1-/VREF-AN5/RC1 (io), 16 INT0/C12IN+/VREF+/AN4/RC0 (io), 17 VUSB, 18 RA1/IOCA1/D-/PGC (io), 19 RA0/IOCA0/D+/PGD (io), 20 VSS (power)

## PIC18LF14K50-EP
designator *  value PIC18LF14K50-EP
ki_keywords: Flash-Based 8bit CMOS Microcontroller XLP; ki_description: 16K Flash, 768 SRAM, 256 EEPROM, USB, nanoWatt XLP, DIP20; ki_fp_filters: DIP*W7.62mm* PDIP*W7.62mm*; Footprint: Package_DIP:DIP-20_W7.62mm; Supplier: http://ww1.microchip.com/downloads/en/devicedoc/41350c.pdf
footprint DIP-20_W7.62mm
pins: 1 VDD (power), 2 RA5/IOCA5/OSC1/CLKIN (io), 3 RA4/IOCA3/AN3/OSC2/CLKOUT (io), 4 RA3/IOCA3/~{{MCLR}/Vpp} (in), 5 T0CKI/CCP1/P1A/RC5 (io), 6 SRQ/C12OUT/P1B/RC4 (io), 7 PGM/C12IN3-/P1C/AN7/RC3 (io), 8 T1OSCI/T13CKI/SS/AN8/RC6 (io), 9 T1OSCO/SDO/AN9/RC7 (io), 10 RB7/IOCB7/TX/CK (io), 11 RB6/IOCB6/SCK/SCL (io), 12 RB5/IOCB5/AN11/RX/DT (io), 13 RB4/IOCB4/AN10/SDI/SDA (io), 14 INT2/CVREF/C12IN2-/P1D/AN6/RC2 (io), 15 INT1/C12IN1-/VREF-AN5/RC1 (io), 16 INT0/C12IN+/VREF+/AN4/RC0 (io), 17 VUSB, 18 RA1/IOCA1/D-/PGC (io), 19 RA0/IOCA0/D+/PGD (io), 20 VSS (power)

## PIC18LF14K50-ESO
designator *  value PIC18LF14K50-ESO
ki_keywords: Flash-Based 8bit CMOS Microcontroller XLP; ki_description: 16K Flash, 768 SRAM, 256 EEPROM, USB, nanoWatt XLP, SOIC20; ki_fp_filters: SOIC*W*7.5x12.8mm*P1.27mm*; Footprint: Package_SO:SOIC-20W_7.5x12.8mm_P1.27mm; Supplier: http://ww1.microchip.com/downloads/en/devicedoc/41350c.pdf
footprint SOIC-20W_7.5x12.8mm_P1.27mm
pins: 1 VDD (power), 2 RA5/IOCA5/OSC1/CLKIN (io), 3 RA4/IOCA3/AN3/OSC2/CLKOUT (io), 4 RA3/IOCA3/~{{MCLR}/Vpp} (in), 5 T0CKI/CCP1/P1A/RC5 (io), 6 SRQ/C12OUT/P1B/RC4 (io), 7 PGM/C12IN3-/P1C/AN7/RC3 (io), 8 T1OSCI/T13CKI/SS/AN8/RC6 (io), 9 T1OSCO/SDO/AN9/RC7 (io), 10 RB7/IOCB7/TX/CK (io), 11 RB6/IOCB6/SCK/SCL (io), 12 RB5/IOCB5/AN11/RX/DT (io), 13 RB4/IOCB4/AN10/SDI/SDA (io), 14 INT2/CVREF/C12IN2-/P1D/AN6/RC2 (io), 15 INT1/C12IN1-/VREF-AN5/RC1 (io), 16 INT0/C12IN+/VREF+/AN4/RC0 (io), 17 VUSB, 18 RA1/IOCA1/D-/PGC (io), 19 RA0/IOCA0/D+/PGD (io), 20 VSS (power)

## PIC18LF14K50-ESS
designator *  value PIC18LF14K50-ESS
ki_keywords: Flash-Based 8bit CMOS Microcontroller XLP; ki_description: 16K Flash, 768 SRAM, 256 EEPROM, USB, nanoWatt XLP, SSOP20; ki_fp_filters: SSOP*5.3x7.2mm*P0.65mm*; Footprint: Package_SO:SSOP-20_5.3x7.2mm_P0.65mm; Supplier: http://ww1.microchip.com/downloads/en/devicedoc/41350c.pdf
footprint SSOP-20_5.3x7.2mm_P0.65mm
pins: 1 VDD (power), 2 RA5/IOCA5/OSC1/CLKIN (io), 3 RA4/IOCA3/AN3/OSC2/CLKOUT (io), 4 RA3/IOCA3/~{{MCLR}/Vpp} (in), 5 T0CKI/CCP1/P1A/RC5 (io), 6 SRQ/C12OUT/P1B/RC4 (io), 7 PGM/C12IN3-/P1C/AN7/RC3 (io), 8 T1OSCI/T13CKI/SS/AN8/RC6 (io), 9 T1OSCO/SDO/AN9/RC7 (io), 10 RB7/IOCB7/TX/CK (io), 11 RB6/IOCB6/SCK/SCL (io), 12 RB5/IOCB5/AN11/RX/DT (io), 13 RB4/IOCB4/AN10/SDI/SDA (io), 14 INT2/CVRef/C12IN2-/P1D/AN6/RC2 (io), 15 INT1/C12IN1-/VREF-AN5/RC1 (io), 16 INT0/C12IN+/VREF+/AN4/RC0 (io), 17 VUSB, 18 RA1/IOCA1/D-/PGC (io), 19 RA0/IOCA0/D+/PGD (io), 20 VSS (power)

## PIC18LF24K50-xML
designator *  value PIC18LF24K50-xML
ki_keywords: Flash-Based 8-Bit Microcontroller XLP; ki_description: 16K Flash, 2K SRAM, 256 EEPROM, USB, nanoWatt XLP, 1.8V to 3.6V, QFN28; ki_fp_filters: QFN*1EP*6x6mm*P0.65mm*; Footprint: Package_DFN_QFN:QFN-28-1EP_6x6mm_P0.65mm_EP4.25x4.25mm; Supplier: http://ww1.microchip.com/downloads/en/devicedoc/30000684B.pdf
footprint QFN-28-1EP_6x6mm_P0.65mm_EP4.25x4.25mm
pins: 1 RA2 (io), 2 RA3 (io), 3 RA4 (io), 4 RA5 (io), 5 VSS (power), 6 RA7/OSC1/CLKI (in), 7 RA6/OSC2/CLKO (out), 8 RC0 (io), 9 RC1 (io), 10 RC2 (io), 11 VUSB3V3/VDDCORE (io), 12 D- (io), 13 D+ (io), 14 RC6 (io), 15 RC7 (io), 16 VSS (power), 17 VDD (power), 18 RB0 (io), 19 RB1 (io), 20 RB2 (io), 21 RB3 (io), 22 RB4 (io), 23 RB5 (io), 24 RB6/PGC (io), 25 RB7/PGD (io), 26 RE3/Vpp/~{{MCLR}} (in), 27 RA0 (io), 28 RA1 (io)

## PIC18LF24K50-xSO
designator *  value PIC18LF24K50-xSO
ki_keywords: Flash-Based 8-Bit Microcontroller XLP; ki_description: 16K Flash, 2K SRAM, 256 EEPROM, USB, nanoWatt XLP, 1.8V to 3.6V, SOIC28; ki_fp_filters: SO*W*7.5x17.9mm*P1.27mm*; Footprint: Package_SO:SOIC-28W_7.5x17.9mm_P1.27mm; Supplier: http://ww1.microchip.com/downloads/en/devicedoc/30000684B.pdf
footprint SOIC-28W_7.5x17.9mm_P1.27mm
pins: 1 RE3/Vpp/~{{MCLR}} (in), 2 RA0 (io), 3 RA1 (io), 4 RA2 (io), 5 RA3 (io), 6 RA4 (io), 7 RA5 (io), 8 VSS (power), 9 RA7/OSC1/CLKI (in), 10 RA6/OSC2/CLKO (out), 11 RC0 (io), 12 RC1 (io), 13 RC2 (io), 14 VUSB3V3/VDDCORE (io), 15 D- (io), 16 D+ (io), 17 RC6 (io), 18 RC7 (io), 19 VSS (power), 20 VDD (power), 21 RB0 (io), 22 RB1 (io), 23 RB2 (io), 24 RB3 (io), 25 RB4 (io), 26 RB5 (io), 27 RB6/PGC (io), 28 RB7/PGD (io)

## PIC18LF24K50-xSP
designator *  value PIC18LF24K50-xSP
ki_keywords: Flash-Based 8-Bit Microcontroller XLP; ki_description: 16K Flash, 2K SRAM, 256 EEPROM, USB, nanoWatt XLP, 1.8V to 3.6V, SPDIP28; ki_fp_filters: SPDIP*W7.62mm* DIP*W7.62mm* PDIP*W7.62mm*; Footprint: Package_DIP:DIP-28_W7.62mm; Supplier: http://ww1.microchip.com/downloads/en/devicedoc/30000684B.pdf
footprint DIP-28_W7.62mm
pins: 1 RE3/Vpp/~{{MCLR}} (in), 2 RA0 (io), 3 RA1 (io), 4 RA2 (io), 5 RA3 (io), 6 RA4 (io), 7 RA5 (io), 8 VSS (power), 9 RA7/OSC1/CLKI (in), 10 RA6/OSC2/CLKO (out), 11 RC0 (io), 12 RC1 (io), 13 RC2 (io), 14 VUSB3V3/VDDCORE (io), 15 D- (io), 16 D+ (io), 17 RC6 (io), 18 RC7 (io), 19 VSS (power), 20 VDD (power), 21 RB0 (io), 22 RB1 (io), 23 RB2 (io), 24 RB3 (io), 25 RB4 (io), 26 RB5 (io), 27 RB6/PGC (io), 28 RB7/PGD (io)

## PIC18LF24K50-xSS
designator *  value PIC18LF24K50-xSS
ki_keywords: Flash-Based 8-Bit Microcontroller XLP; ki_description: 16K Flash, 2K SRAM, 256 EEPROM, USB, nanoWatt XLP, 1.8V to 3.6V, SSOP28; ki_fp_filters: SSOP*5.3x10.2mm*P0.65mm*; Footprint: Package_SO:SSOP-28_5.3x10.2mm_P0.65mm; Supplier: http://ww1.microchip.com/downloads/en/devicedoc/30000684B.pdf
footprint SSOP-28_5.3x10.2mm_P0.65mm
pins: 1 RE3/Vpp/~{{MCLR}} (in), 2 RA0 (io), 3 RA1 (io), 4 RA2 (io), 5 RA3 (io), 6 RA4 (io), 7 RA5 (io), 8 VSS (power), 9 RA7/OSC1/CLKI (in), 10 RA6/OSC2/CLKO (out), 11 RC0 (io), 12 RC1 (io), 13 RC2 (io), 14 VUSB3V3/VDDCORE (io), 15 D- (io), 16 D+ (io), 17 RC6 (io), 18 RC7 (io), 19 VSS (power), 20 VDD (power), 21 RB0 (io), 22 RB1 (io), 23 RB2 (io), 24 RB3 (io), 25 RB4 (io), 26 RB5 (io), 27 RB6/PGC (io), 28 RB7/PGD (io)

## PIC18LF25K50-xML
designator *  value PIC18LF25K50-xML
ki_keywords: Flash-Based 8-Bit Microcontroller XLP; ki_description: 32K Flash, 2K SRAM, 256 EEPROM, USB, nanoWatt XLP, 1.8V to 3.6V, QFN28; ki_fp_filters: QFN*1EP*6x6mm*P0.65mm*; Footprint: Package_DFN_QFN:QFN-28-1EP_6x6mm_P0.65mm_EP4.25x4.25mm; Supplier: http://ww1.microchip.com/downloads/en/devicedoc/30000684B.pdf
footprint QFN-28-1EP_6x6mm_P0.65mm_EP4.25x4.25mm
pins: 1 RA2 (io), 2 RA3 (io), 3 RA4 (io), 4 RA5 (io), 5 VSS (power), 6 RA7/OSC1/CLKI (in), 7 RA6/OSC2/CLKO (out), 8 RC0 (io), 9 RC1 (io), 10 RC2 (io), 11 VUSB3V3/VDDCORE (io), 12 D- (io), 13 D+ (io), 14 RC6 (io), 15 RC7 (io), 16 VSS (power), 17 VDD (power), 18 RB0 (io), 19 RB1 (io), 20 RB2 (io), 21 RB3 (io), 22 RB4 (io), 23 RB5 (io), 24 RB6/PGC (io), 25 RB7/PGD (io), 26 RE3/Vpp/~{{MCLR}} (in), 27 RA0 (io), 28 RA1 (io)

## PIC18LF25K50-xSO
designator *  value PIC18LF25K50-xSO
ki_keywords: Flash-Based 8-Bit Microcontroller XLP; ki_description: 32K Flash, 2K SRAM, 256 EEPROM, USB, nanoWatt XLP, 1.8V to 3.6V, SOIC28; ki_fp_filters: SO*W*7.5x17.9mm*P1.27mm*; Footprint: Package_SO:SOIC-28W_7.5x17.9mm_P1.27mm; Supplier: http://ww1.microchip.com/downloads/en/devicedoc/30000684B.pdf
footprint SOIC-28W_7.5x17.9mm_P1.27mm
pins: 1 RE3/Vpp/~{{MCLR}} (in), 2 RA0 (io), 3 RA1 (io), 4 RA2 (io), 5 RA3 (io), 6 RA4 (io), 7 RA5 (io), 8 VSS (power), 9 RA7/OSC1/CLKI (in), 10 RA6/OSC2/CLKO (out), 11 RC0 (io), 12 RC1 (io), 13 RC2 (io), 14 VUSB3V3/VDDCORE (io), 15 D- (io), 16 D+ (io), 17 RC6 (io), 18 RC7 (io), 19 VSS (power), 20 VDD (power), 21 RB0 (io), 22 RB1 (io), 23 RB2 (io), 24 RB3 (io), 25 RB4 (io), 26 RB5 (io), 27 RB6/PGC (io), 28 RB7/PGD (io)

## PIC18LF25K50-xSP
designator *  value PIC18LF25K50-xSP
ki_keywords: Flash-Based 8-Bit Microcontroller XLP; ki_description: 32K Flash, 2K SRAM, 256 EEPROM, USB, nanoWatt XLP, 1.8V to 3.6V, SPDIP28; ki_fp_filters: SPDIP*W7.62mm* DIP*W7.62mm* PDIP*W7.62mm*; Footprint: Package_DIP:DIP-28_W7.62mm; Supplier: http://ww1.microchip.com/downloads/en/devicedoc/30000684B.pdf
footprint DIP-28_W7.62mm
pins: 1 RE3/Vpp/~{{MCLR}} (in), 2 RA0 (io), 3 RA1 (io), 4 RA2 (io), 5 RA3 (io), 6 RA4 (io), 7 RA5 (io), 8 VSS (power), 9 RA7/OSC1/CLKI (in), 10 RA6/OSC2/CLKO (out), 11 RC0 (io), 12 RC1 (io), 13 RC2 (io), 14 VUSB3V3/VDDCORE (io), 15 D- (io), 16 D+ (io), 17 RC6 (io), 18 RC7 (io), 19 VSS (power), 20 VDD (power), 21 RB0 (io), 22 RB1 (io), 23 RB2 (io), 24 RB3 (io), 25 RB4 (io), 26 RB5 (io), 27 RB6/PGC (io), 28 RB7/PGD (io)

## PIC18LF25K50-xSS
designator *  value PIC18LF25K50-xSS
ki_keywords: Flash-Based 8-Bit Microcontroller XLP; ki_description: 32K Flash, 2K SRAM, 256 EEPROM, USB, nanoWatt XLP, 1.8V to 3.6V, SSOP28; ki_fp_filters: SSOP*5.3x10.2mm*P0.65mm*; Footprint: Package_SO:SSOP-28_5.3x10.2mm_P0.65mm; Supplier: http://ww1.microchip.com/downloads/en/devicedoc/30000684B.pdf
footprint SSOP-28_5.3x10.2mm_P0.65mm
pins: 1 RE3/Vpp/~{{MCLR}} (in), 2 RA0 (io), 3 RA1 (io), 4 RA2 (io), 5 RA3 (io), 6 RA4 (io), 7 RA5 (io), 8 VSS (power), 9 RA7/OSC1/CLKI (in), 10 RA6/OSC2/CLKO (out), 11 RC0 (io), 12 RC1 (io), 13 RC2 (io), 14 VUSB3V3/VDDCORE (io), 15 D- (io), 16 D+ (io), 17 RC6 (io), 18 RC7 (io), 19 VSS (power), 20 VDD (power), 21 RB0 (io), 22 RB1 (io), 23 RB2 (io), 24 RB3 (io), 25 RB4 (io), 26 RB5 (io), 27 RB6/PGC (io), 28 RB7/PGD (io)

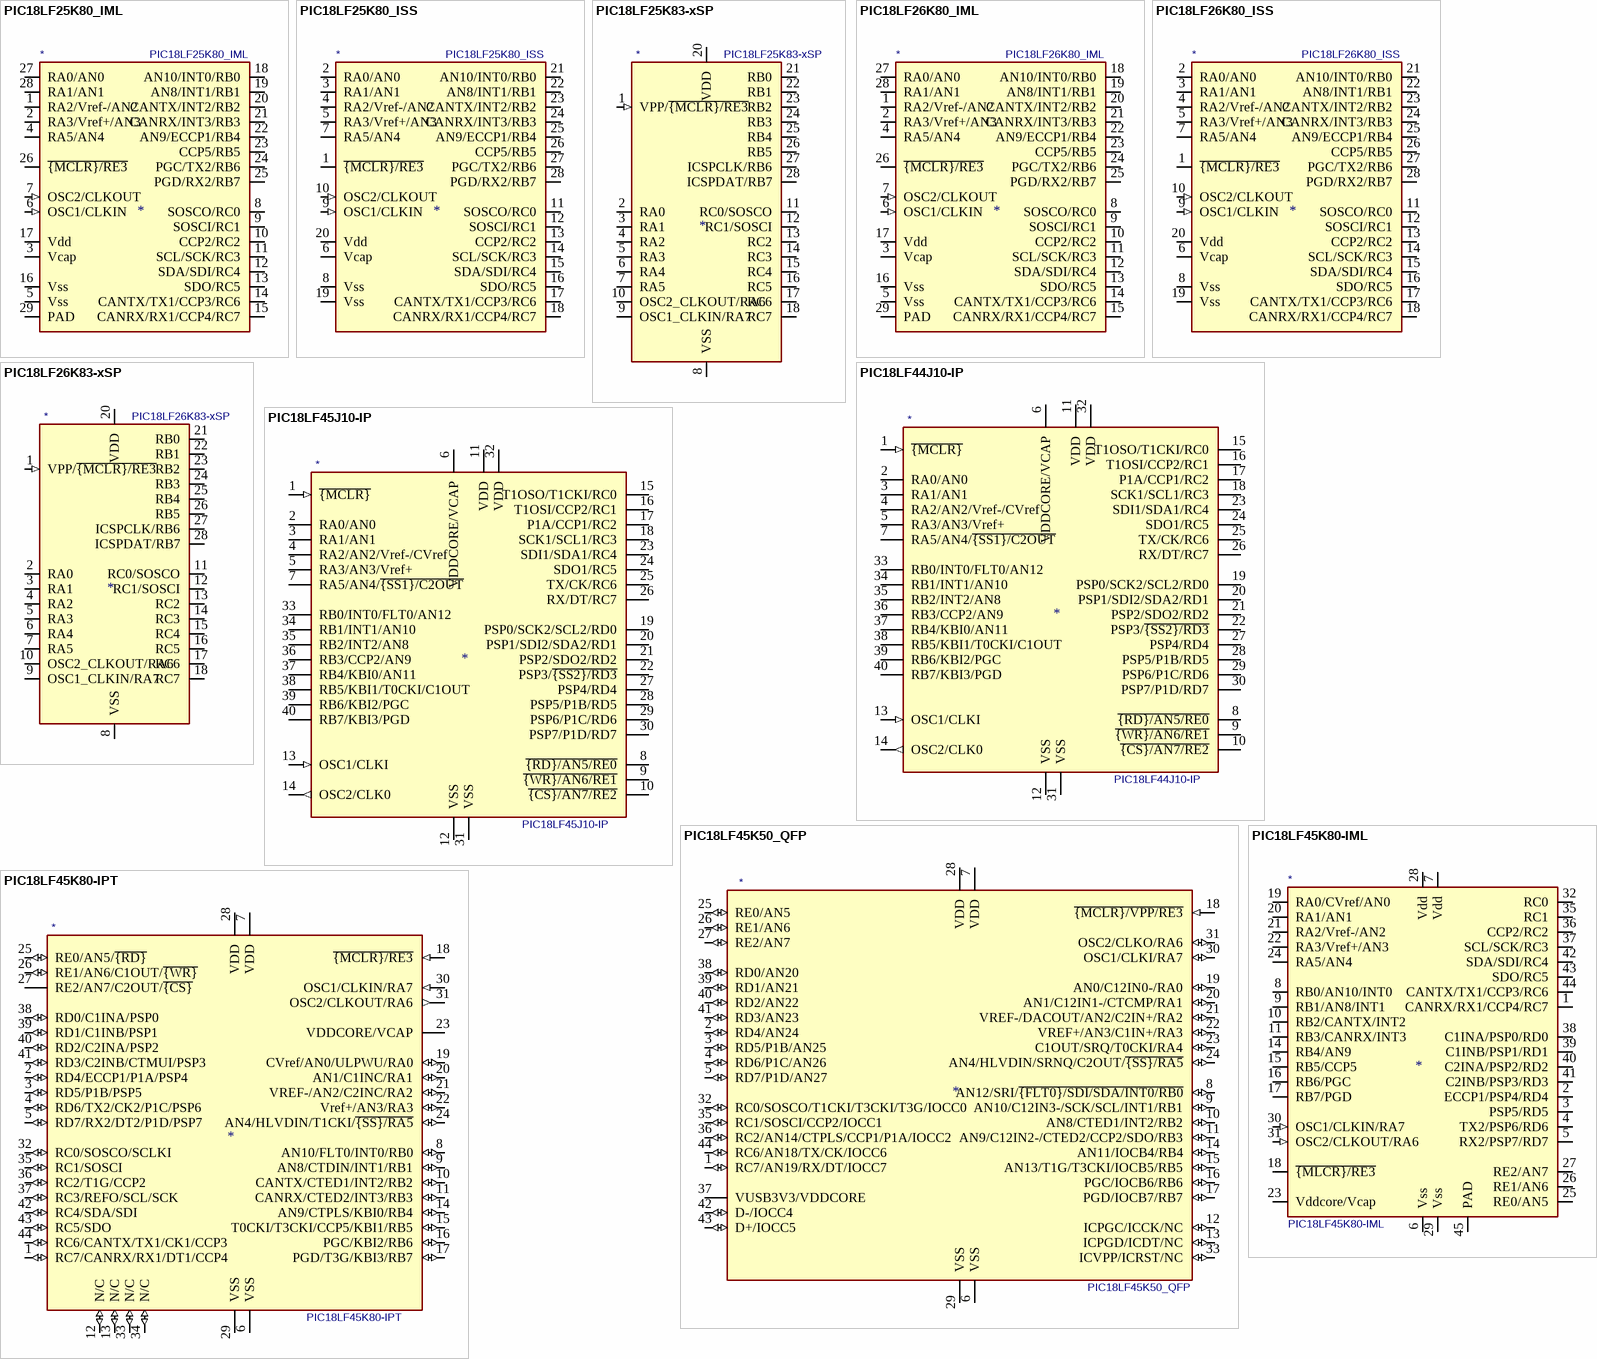
[diagram p11: symbols PIC18LF25K80_IML to PIC18LF45K80-IPT]

## PIC18LF25K80_IML
designator *  value PIC18LF25K80_IML
ki_keywords: microcontroller microchip CAN USB UART QFN SPI I2C FLASH EEPROM; ki_description: 32K Flash, 3.5K RAM, 1K EEPROM 28-Pin QFN Flash Microcontroller with ECAN and nanoWatt XLP Technology; ki_fp_filters: QFN*1EP*6x6mm*P0.65mm*; Footprint: Package_DFN_QFN:QFN-28-1EP_6x6mm_P0.65mm_EP4.25x4.25mm; Supplier: http://ww1.microchip.com/downloads/en/DeviceDoc/39977f.pdf
footprint QFN-28-1EP_6x6mm_P0.65mm_EP4.25x4.25mm
pins: 1 RA2/Vref-/AN2 (io), 2 RA3/Vref+/AN3 (io), 3 Vcap (power), 4 RA5/AN4 (io), 5 Vss (power), 6 OSC1/CLKIN (in), 7 OSC2/CLKOUT (in), 8 SOSCO/RC0 (io), 9 SOSCI/RC1 (io), 10 CCP2/RC2 (io), 11 SCL/SCK/RC3 (io), 12 SDA/SDI/RC4 (io), 13 SDO/RC5 (io), 14 CANTX/TX1/CCP3/RC6 (io), 15 CANRX/RX1/CCP4/RC7 (io), 16 Vss (power), 17 Vdd (power), 18 AN10/INT0/RB0 (io), 19 AN8/INT1/RB1 (io), 20 CANTX/INT2/RB2 (io), 21 CANRX/INT3/RB3 (io), 22 AN9/ECCP1/RB4 (io), 23 CCP5/RB5 (io), 24 PGC/TX2/RB6 (io), 25 PGD/RX2/RB7 (io), 26 ~{{MCLR}/RE3} (io), 27 RA0/AN0 (io), 28 RA1/AN1 (io), 29 PAD (power)

## PIC18LF25K80_ISS
designator *  value PIC18LF25K80_ISS
ki_keywords: microchip microcontroller PIC18 flash ECAN XLP nanoWatt; ki_description: 32K Flash, 3.5K RAM, 1K EEPROM PIC18 Microcontroller ADC PWM CAN SPI I2C USART in SSOP28 package; ki_fp_filters: SSOP*5.3x10.2mm*P0.65mm*; Footprint: Package_SO:SSOP-28_5.3x10.2mm_P0.65mm; Supplier: http://ww1.microchip.com/downloads/en/DeviceDoc/39977f.pdf
footprint SSOP-28_5.3x10.2mm_P0.65mm
pins: 1 ~{{MCLR}/RE3} (io), 2 RA0/AN0 (io), 3 RA1/AN1 (io), 4 RA2/Vref-/AN2 (io), 5 RA3/Vref+/AN3 (io), 6 Vcap (power), 7 RA5/AN4 (io), 8 Vss (power), 9 OSC1/CLKIN (in), 10 OSC2/CLKOUT (in), 11 SOSCO/RC0 (io), 12 SOSCI/RC1 (io), 13 CCP2/RC2 (io), 14 SCL/SCK/RC3 (io), 15 SDA/SDI/RC4 (io), 16 SDO/RC5 (io), 17 CANTX/TX1/CCP3/RC6 (io), 18 CANRX/RX1/CCP4/RC7 (io), 19 Vss (power), 20 Vdd (power), 21 AN10/INT0/RB0 (io), 22 AN8/INT1/RB1 (io), 23 CANTX/INT2/RB2 (io), 24 CANRX/INT3/RB3 (io), 25 AN9/ECCP1/RB4 (io), 26 CCP5/RB5 (io), 27 PGC/TX2/RB6 (io), 28 PGD/RX2/RB7 (io)

## PIC18LF25K83-xSP
designator *  value PIC18LF25K83-xSP
ki_keywords: microcontroller Microchip DMA WWDT DIA DCI XLP CLC CWG CCP NCO DSM CRC UART LIN DMX DALI SPI CAN I2C PPS SMT ADC2 CVD DAC; ki_description: 32K Flash, 2K RAM, 1K EEPROM, 1.8-3.6V, PIC18, low-power microcontroller with CAN, DIP-28; ki_fp_filters: DIP*W7.62mm*; Footprint: Package_DIP:DIP-28_W7.62mm; Supplier: http://ww1.microchip.com/downloads/en/DeviceDoc/40001943A.pdf
footprint DIP-28_W7.62mm
pins: 1 VPP/~{{MCLR}/RE3} (in), 2 RA0 (io), 3 RA1 (io), 4 RA2 (io), 5 RA3 (io), 6 RA4 (io), 7 RA5 (io), 8 VSS (power), 9 OSC1_CLKIN/RA7 (io), 10 OSC2_CLKOUT/RA6 (io), 11 RC0/SOSCO (io), 12 RC1/SOSCI (io), 13 RC2 (io), 14 RC3 (io), 15 RC4 (io), 16 RC5 (io), 17 RC6 (io), 18 RC7 (io), 19 VSS hidden, 20 VDD (power), 21 RB0 (io), 22 RB1 (io), 23 RB2 (io), 24 RB3 (io), 25 RB4 (io), 26 RB5 (io), 27 ICSPCLK/RB6 (io), 28 ICSPDAT/RB7 (io)

## PIC18LF26K80_IML
designator *  value PIC18LF26K80_IML
ki_keywords: microchip microcontroller PIC18 flash ECAN XLP nanoWatt; ki_description: 64K Flash, 3.5K RAM, 1K EEPROM PIC18 Microcontroller ADC PWM CAN SPI I2C USART in QFN28 package; ki_fp_filters: QFN*1EP*6x6mm*P0.65mm*; Footprint: Package_DFN_QFN:QFN-28-1EP_6x6mm_P0.65mm_EP4.25x4.25mm; Supplier: http://ww1.microchip.com/downloads/en/DeviceDoc/39977f.pdf
footprint QFN-28-1EP_6x6mm_P0.65mm_EP4.25x4.25mm
pins: 1 RA2/Vref-/AN2 (io), 2 RA3/Vref+/AN3 (io), 3 Vcap (power), 4 RA5/AN4 (io), 5 Vss (power), 6 OSC1/CLKIN (in), 7 OSC2/CLKOUT (in), 8 SOSCO/RC0 (io), 9 SOSCI/RC1 (io), 10 CCP2/RC2 (io), 11 SCL/SCK/RC3 (io), 12 SDA/SDI/RC4 (io), 13 SDO/RC5 (io), 14 CANTX/TX1/CCP3/RC6 (io), 15 CANRX/RX1/CCP4/RC7 (io), 16 Vss (power), 17 Vdd (power), 18 AN10/INT0/RB0 (io), 19 AN8/INT1/RB1 (io), 20 CANTX/INT2/RB2 (io), 21 CANRX/INT3/RB3 (io), 22 AN9/ECCP1/RB4 (io), 23 CCP5/RB5 (io), 24 PGC/TX2/RB6 (io), 25 PGD/RX2/RB7 (io), 26 ~{{MCLR}/RE3} (io), 27 RA0/AN0 (io), 28 RA1/AN1 (io), 29 PAD (power)

## PIC18LF26K80_ISS
designator *  value PIC18LF26K80_ISS
ki_keywords: microchip microcontroller PIC18 flash ECAN XLP nanoWatt; ki_description: 64K Flash, 3.5K RAM, 1K EEPROM PIC18 Microcontroller ADC PWM CAN SPI I2C USART in SSOP28 package; ki_fp_filters: SSOP*5.3x10.2mm*P0.65mm*; Footprint: Package_SO:SSOP-28_5.3x10.2mm_P0.65mm; Supplier: http://ww1.microchip.com/downloads/en/DeviceDoc/39977f.pdf
footprint SSOP-28_5.3x10.2mm_P0.65mm
pins: 1 ~{{MCLR}/RE3} (io), 2 RA0/AN0 (io), 3 RA1/AN1 (io), 4 RA2/Vref-/AN2 (io), 5 RA3/Vref+/AN3 (io), 6 Vcap (power), 7 RA5/AN4 (io), 8 Vss (power), 9 OSC1/CLKIN (in), 10 OSC2/CLKOUT (in), 11 SOSCO/RC0 (io), 12 SOSCI/RC1 (io), 13 CCP2/RC2 (io), 14 SCL/SCK/RC3 (io), 15 SDA/SDI/RC4 (io), 16 SDO/RC5 (io), 17 CANTX/TX1/CCP3/RC6 (io), 18 CANRX/RX1/CCP4/RC7 (io), 19 Vss (power), 20 Vdd (power), 21 AN10/INT0/RB0 (io), 22 AN8/INT1/RB1 (io), 23 CANTX/INT2/RB2 (io), 24 CANRX/INT3/RB3 (io), 25 AN9/ECCP1/RB4 (io), 26 CCP5/RB5 (io), 27 PGC/TX2/RB6 (io), 28 PGD/RX2/RB7 (io)

## PIC18LF26K83-xSP
designator *  value PIC18LF26K83-xSP
ki_keywords: microcontroller Microchip DMA WWDT DIA DCI XLP CLC CWG CCP NCO DSM CRC UART LIN DMX DALI SPI CAN I2C PPS SMT ADC2 CVD DAC; ki_description: 64K Flash, 4K RAM, 1K EEPROM, 1.8-3.6V, PIC18, low-power microcontroller with CAN, DIP-28; ki_fp_filters: DIP*W7.62mm*; Footprint: Package_DIP:DIP-28_W7.62mm; Supplier: http://ww1.microchip.com/downloads/en/DeviceDoc/40001943A.pdf
footprint DIP-28_W7.62mm
pins: 1 VPP/~{{MCLR}/RE3} (in), 2 RA0 (io), 3 RA1 (io), 4 RA2 (io), 5 RA3 (io), 6 RA4 (io), 7 RA5 (io), 8 VSS (power), 9 OSC1_CLKIN/RA7 (io), 10 OSC2_CLKOUT/RA6 (io), 11 RC0/SOSCO (io), 12 RC1/SOSCI (io), 13 RC2 (io), 14 RC3 (io), 15 RC4 (io), 16 RC5 (io), 17 RC6 (io), 18 RC7 (io), 19 VSS hidden, 20 VDD (power), 21 RB0 (io), 22 RB1 (io), 23 RB2 (io), 24 RB3 (io), 25 RB4 (io), 26 RB5 (io), 27 ICSPCLK/RB6 (io), 28 ICSPDAT/RB7 (io)

## PIC18LF44J10-IP
designator *  value PIC18LF44J10-IP
ki_keywords: Flash-Based 8-Bit Microcontroller; ki_description: 16K Flash, 1K SRAM, ADC, DIP40; ki_fp_filters: DIP*W15.24mm* PDIP*W15.24mm*; Footprint: Package_DIP:DIP-40_W15.24mm; Supplier: http://ww1.microchip.com/downloads/en/DeviceDoc/39682E.pdf
footprint DIP-40_W15.24mm
pins: 1 ~{{MCLR}} (in), 2 RA0/AN0 (hiz), 3 RA1/AN1 (hiz), 4 RA2/AN2/Vref-/CVref (hiz), 5 RA3/AN3/Vref+ (hiz), 6 VDDCORE/VCAP, 7 RA5/AN4/~{{SS1}/C2OUT} (hiz), 8 ~{{RD}/AN5/RE0} (hiz), 9 ~{{WR}/AN6/RE1} (hiz), 10 ~{{CS}/AN7/RE2} (hiz), 11 VDD (power), 12 VSS (power), 13 OSC1/CLKI (in), 14 OSC2/CLK0 (out), 15 T1OSO/T1CKI/RC0 (hiz), 16 T1OSI/CCP2/RC1 (hiz), 17 P1A/CCP1/RC2 (hiz), 18 SCK1/SCL1/RC3 (hiz), 19 PSP0/SCK2/SCL2/RD0 (hiz), 20 PSP1/SDI2/SDA2/RD1 (hiz), 21 PSP2/SDO2/RD2 (hiz), 22 PSP3/~{{SS2}/RD3} (hiz), 23 SDI1/SDA1/RC4 (hiz), 24 SDO1/RC5 (hiz), 25 TX/CK/RC6 (hiz), 26 RX/DT/RC7 (hiz), 27 PSP4/RD4 (hiz), 28 PSP5/P1B/RD5 (hiz), 29 PSP6/P1C/RD6 (hiz), 30 PSP7/P1D/RD7 (hiz), 31 VSS (power), 32 VDD (power), 33 RB0/INT0/FLT0/AN12 (hiz), 34 RB1/INT1/AN10 (hiz), 35 RB2/INT2/AN8 (hiz), 36 RB3/CCP2/AN9 (hiz), 37 RB4/KBI0/AN11 (hiz), 38 RB5/KBI1/T0CKI/C1OUT (hiz), 39 RB6/KBI2/PGC (hiz), 40 RB7/KBI3/PGD (hiz)

## PIC18LF45J10-IP
designator *  value PIC18LF45J10-IP
ki_keywords: Flash-Based 8-Bit Microcontroller; ki_description: 32K Flash, 1K SRAM, ADC, DIP40; ki_fp_filters: DIP*W15.24mm* PDIP*W15.24mm*; Footprint: Package_DIP:DIP-40_W15.24mm; Supplier: http://ww1.microchip.com/downloads/en/DeviceDoc/39682E.pdf
footprint DIP-40_W15.24mm
pins: 1 ~{{MCLR}} (in), 2 RA0/AN0 (hiz), 3 RA1/AN1 (hiz), 4 RA2/AN2/Vref-/CVref (hiz), 5 RA3/AN3/Vref+ (hiz), 6 VDDCORE/VCAP, 7 RA5/AN4/~{{SS1}/C2OUT} (hiz), 8 ~{{RD}/AN5/RE0} (hiz), 9 ~{{WR}/AN6/RE1} (hiz), 10 ~{{CS}/AN7/RE2} (hiz), 11 VDD (power), 12 VSS (power), 13 OSC1/CLKI (in), 14 OSC2/CLK0 (out), 15 T1OSO/T1CKI/RC0 (hiz), 16 T1OSI/CCP2/RC1 (hiz), 17 P1A/CCP1/RC2 (hiz), 18 SCK1/SCL1/RC3 (hiz), 19 PSP0/SCK2/SCL2/RD0 (hiz), 20 PSP1/SDI2/SDA2/RD1 (hiz), 21 PSP2/SDO2/RD2 (hiz), 22 PSP3/~{{SS2}/RD3} (hiz), 23 SDI1/SDA1/RC4 (hiz), 24 SDO1/RC5 (hiz), 25 TX/CK/RC6 (hiz), 26 RX/DT/RC7 (hiz), 27 PSP4/RD4 (hiz), 28 PSP5/P1B/RD5 (hiz), 29 PSP6/P1C/RD6 (hiz), 30 PSP7/P1D/RD7 (hiz), 31 VSS (power), 32 VDD (power), 33 RB0/INT0/FLT0/AN12 (hiz), 34 RB1/INT1/AN10 (hiz), 35 RB2/INT2/AN8 (hiz), 36 RB3/CCP2/AN9 (hiz), 37 RB4/KBI0/AN11 (hiz), 38 RB5/KBI1/T0CKI/C1OUT (hiz), 39 RB6/KBI2/PGC (hiz), 40 RB7/KBI3/PGD (hiz)

## PIC18LF45K50_QFP
designator *  value PIC18LF45K50_QFP
ki_keywords: microcontroller Flash EEPROM SPI I2C USB UART USART ADC TQFP; ki_description: 32K Flash, 2K RAM, 256B EEPROM, Microchip PIC18F series enhanced flash microcontroller with USB and nanoWatt XLP Technology in TQFP-44 package; ki_fp_filters: TQFP*10x10mm*P0.8mm*; Footprint: Package_QFP:TQFP-44_10x10mm_P0.8mm; Supplier: http://ww1.microchip.com/downloads/en/DeviceDoc/30000684B.pdf
footprint TQFP-44_10x10mm_P0.8mm
pins: 1 RC7/AN19/RX/DT/IOCC7 (io), 2 RD4/AN24 (io), 3 RD5/P1B/AN25 (io), 4 RD6/P1C/AN26 (io), 5 RD7/P1D/AN27 (io), 6 VSS (power), 7 VDD (power), 8 AN12/SRI/~{{FLT0}/SDI/SDA/INT0/RB0} (io), 9 AN10/C12IN3-/SCK/SCL/INT1/RB1 (io), 10 AN8/CTED1/INT2/RB2 (io), 11 AN9/C12IN2-/CTED2/CCP2/SDO/RB3 (io), 12 ICPGC/ICCK/NC (io), 13 ICPGD/ICDT/NC (io), 14 AN11/IOCB4/RB4 (io), 15 AN13/T1G/T3CKI/IOCB5/RB5 (io), 16 PGC/IOCB6/RB6 (io), 17 PGD/IOCB7/RB7 (io), 18 ~{{MCLR}/VPP/RE3} (in), 19 AN0/C12IN0-/RA0 (io), 20 AN1/C12IN1-/CTCMP/RA1 (io), 21 VREF-/DACOUT/AN2/C2IN+/RA2 (io), 22 VREF+/AN3/C1IN+/RA3 (io), 23 C1OUT/SRQ/T0CKI/RA4 (io), 24 AN4/HLVDIN/SRNQ/C2OUT/~{{SS}/RA5} (io), 25 RE0/AN5 (io), 26 RE1/AN6 (io), 27 RE2/AN7 (io), 28 VDD (power), 29 VSS (power), 30 OSC1/CLKI/RA7 (io), 31 OSC2/CLKO/RA6 (io), 32 RC0/SOSCO/T1CKI/T3CKI/T3G/IOCC0 (io), 33 ICVPP/ICRST/NC (io), 34 NC (in) hidden, 35 RC1/SOSCI/CCP2/IOCC1 (io), 36 RC2/AN14/CTPLS/CCP1/P1A/IOCC2 (io), 37 VUSB3V3/VDDCORE (power), 38 RD0/AN20 (io), 39 RD1/AN21 (io), 40 RD2/AN22 (io), 41 RD3/AN23 (io), 42 D-/IOCC4 (io), 43 D+/IOCC5 (io), 44 RC6/AN18/TX/CK/IOCC6 (io)

## PIC18LF45K80-IML
designator *  value PIC18LF45K80-IML
ki_keywords: microchip microcontroller PIC18 flash ECAN XLP nanoWatt; ki_description: 32K Flash, 3.5K RAM, 1K EEPROM PIC18 Microcontroller ADC PWM CAN SPI I2C USART in QFN44 package; ki_fp_filters: QFN*1EP*8x8mm*P0.65mm*; Footprint: Package_DFN_QFN:QFN-44-1EP_8x8mm_P0.65mm_EP6.45x6.45mm; Supplier: http://ww1.microchip.com/downloads/en/DeviceDoc/39977f.pdf
footprint QFN-44-1EP_8x8mm_P0.65mm_EP6.45x6.45mm
pins: 1 CANRX/RX1/CCP4/RC7 (io), 2 ECCP1/PSP4/RD4 (io), 3 PSP5/RD5 (io), 4 TX2/PSP6/RD6 (io), 5 RX2/PSP7/RD7 (io), 6 Vss (power), 7 Vdd (power), 8 RB0/AN10/INT0 (io), 9 RB1/AN8/INT1 (io), 10 RB2/CANTX/INT2 (io), 11 RB3/CANRX/INT3 (io), 12 NC (in) hidden, 13 NC (in) hidden, 14 RB4/AN9 (io), 15 RB5/CCP5 (io), 16 RB6/PGC (io), 17 RB7/PGD (io), 18 ~{{MLCR}/RE3} (io), 19 RA0/CVref/AN0 (io), 20 RA1/AN1 (io), 21 RA2/Vref-/AN2 (io), 22 RA3/Vref+/AN3 (io), 23 Vddcore/Vcap (power), 24 RA5/AN4 (io), 25 RE0/AN5 (io), 26 RE1/AN6 (io), 27 RE2/AN7 (io), 28 Vdd (power), 29 Vss (power), 30 OSC1/CLKIN/RA7 (in), 31 OSC2/CLKOUT/RA6 (in), 32 RC0 (io), 33 NC (in) hidden, 34 NC (in) hidden, 35 RC1 (io), 36 CCP2/RC2 (io), 37 SCL/SCK/RC3 (io), 38 C1INA/PSP0/RD0 (io), 39 C1INB/PSP1/RD1 (io), 40 C2INA/PSP2/RD2 (io), 41 C2INB/PSP3/RD3 (io), 42 SDA/SDI/RC4 (io), 43 SDO/RC5 (io), 44 CANTX/TX1/CCP3/RC6 (io), 45 PAD (power)

## PIC18LF45K80-IPT
designator *  value PIC18LF45K80-IPT
ki_keywords: microchip microcontroller PIC18 flash ECAN XLP nanoWatt; ki_description: 32K Flash, 3.5K RAM, 1K EEPROM PIC18 Microcontroller ADC PWM CAN SPI I2C USART in TQFP44 package; ki_fp_filters: TQFP*10x10mm*P0.8mm*; Footprint: Package_QFP:TQFP-44_10x10mm_P0.8mm; Supplier: http://ww1.microchip.com/downloads/en/DeviceDoc/39977f.pdf
footprint TQFP-44_10x10mm_P0.8mm
pins: 1 RC7/CANRX/RX1/DT1/CCP4 (io), 2 RD4/ECCP1/P1A/PSP4 (io), 3 RD5/P1B/PSP5 (io), 4 RD6/TX2/CK2/P1C/PSP6 (io), 5 RD7/RX2/DT2/P1D/PSP7 (io), 6 VSS (power), 7 VDD (power), 8 AN10/FLT0/INT0/RB0 (io), 9 AN8/CTDIN/INT1/RB1 (io), 10 CANTX/CTED1/INT2/RB2 (io), 11 CANRX/CTED2/INT3/RB3 (io), 12 N/C (io), 13 N/C (io), 14 AN9/CTPLS/KBI0/RB4 (io), 15 T0CKI/T3CKI/CCP5/KBI1/RB5 (io), 16 PGC/KBI2/RB6 (io), 17 PGD/T3G/KBI3/RB7 (io), 18 ~{{MCLR}/RE3} (in), 19 CVref/AN0/ULPWU/RA0 (io), 20 AN1/C1INC/RA1 (io), 21 VREF-/AN2/C2INC/RA2 (io), 22 Vref+/AN3/RA3 (io), 23 VDDCORE/VCAP, 24 AN4/HLVDIN/T1CKI/~{{SS}/RA5} (io), 25 RE0/AN5/~{{RD}} (io), 26 RE1/AN6/C1OUT/~{{WR}} (io), 27 RE2/AN7/C2OUT/~{{CS}} (power), 28 VDD (power), 29 VSS (power), 30 OSC1/CLKIN/RA7 (in), 31 OSC2/CLKOUT/RA6 (out), 32 RC0/SOSCO/SCLKI (io), 33 N/C (io), 34 N/C (io), 35 RC1/SOSCI (io), 36 RC2/T1G/CCP2 (io), 37 RC3/REFO/SCL/SCK (io), 38 RD0/C1INA/PSP0 (io), 39 RD1/C1INB/PSP1 (io), 40 RD2/C2INA/PSP2 (io), 41 RD3/C2INB/CTMUI/PSP3 (io), 42 RC4/SDA/SDI (io), 43 RC5/SDO (io), 44 RC6/CANTX/TX1/CK1/CCP3 (io)

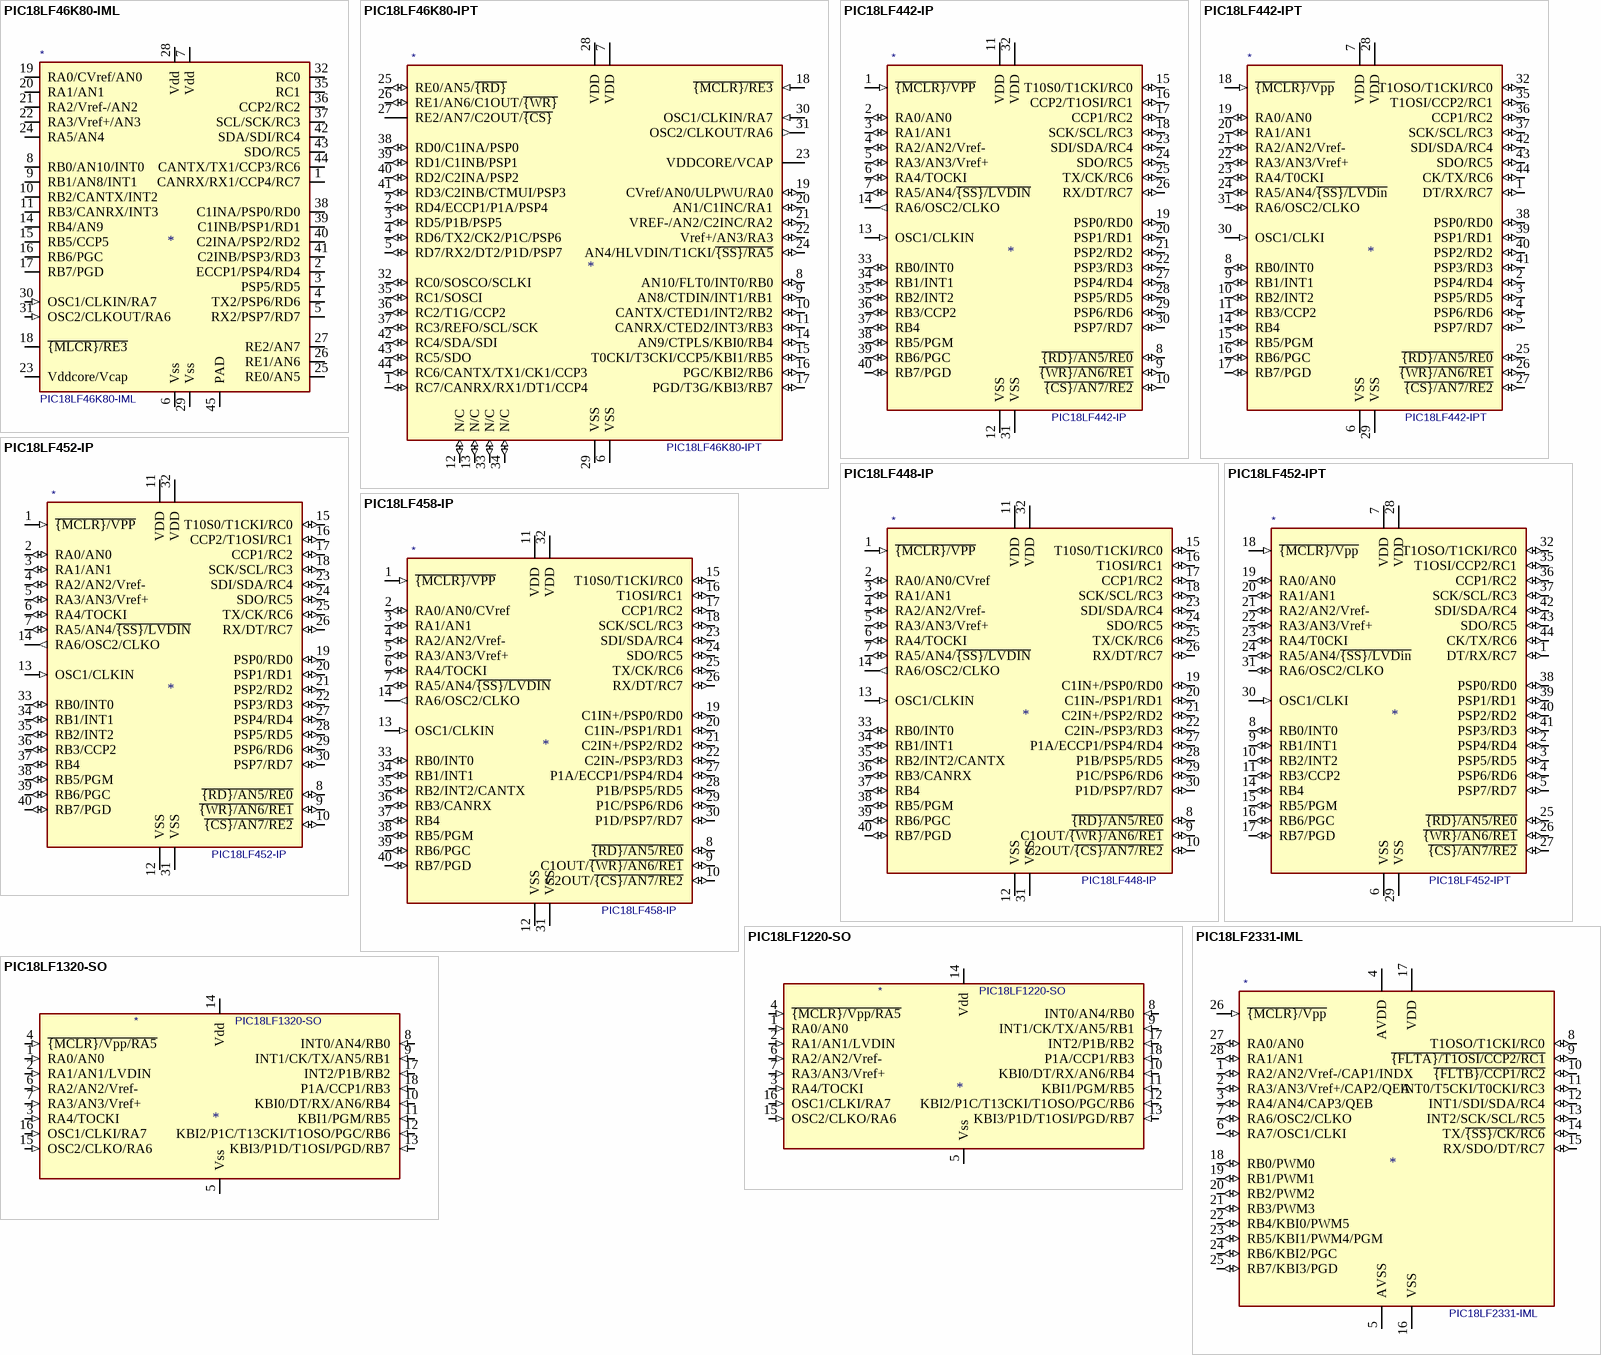
[diagram p12: symbols PIC18LF46K80-IML to PIC18LF2331-IML]

## PIC18LF46K80-IML
designator *  value PIC18LF46K80-IML
ki_keywords: microchip microcontroller PIC18 flash ECAN XLP nanoWatt; ki_description: 64K Flash, 3.5K RAM, 1K EEPROM PIC18 Microcontroller ADC PWM CAN SPI I2C USART in QFN44 package; ki_fp_filters: QFN*1EP*8x8mm*P0.65mm*; Footprint: Package_DFN_QFN:QFN-44-1EP_8x8mm_P0.65mm_EP6.45x6.45mm; Supplier: http://ww1.microchip.com/downloads/en/DeviceDoc/39977f.pdf
footprint QFN-44-1EP_8x8mm_P0.65mm_EP6.45x6.45mm
pins: 1 CANRX/RX1/CCP4/RC7 (io), 2 ECCP1/PSP4/RD4 (io), 3 PSP5/RD5 (io), 4 TX2/PSP6/RD6 (io), 5 RX2/PSP7/RD7 (io), 6 Vss (power), 7 Vdd (power), 8 RB0/AN10/INT0 (io), 9 RB1/AN8/INT1 (io), 10 RB2/CANTX/INT2 (io), 11 RB3/CANRX/INT3 (io), 12 NC (in) hidden, 13 NC (in) hidden, 14 RB4/AN9 (io), 15 RB5/CCP5 (io), 16 RB6/PGC (io), 17 RB7/PGD (io), 18 ~{{MLCR}/RE3} (io), 19 RA0/CVref/AN0 (io), 20 RA1/AN1 (io), 21 RA2/Vref-/AN2 (io), 22 RA3/Vref+/AN3 (io), 23 Vddcore/Vcap (power), 24 RA5/AN4 (io), 25 RE0/AN5 (io), 26 RE1/AN6 (io), 27 RE2/AN7 (io), 28 Vdd (power), 29 Vss (power), 30 OSC1/CLKIN/RA7 (in), 31 OSC2/CLKOUT/RA6 (in), 32 RC0 (io), 33 NC (in) hidden, 34 NC (in) hidden, 35 RC1 (io), 36 CCP2/RC2 (io), 37 SCL/SCK/RC3 (io), 38 C1INA/PSP0/RD0 (io), 39 C1INB/PSP1/RD1 (io), 40 C2INA/PSP2/RD2 (io), 41 C2INB/PSP3/RD3 (io), 42 SDA/SDI/RC4 (io), 43 SDO/RC5 (io), 44 CANTX/TX1/CCP3/RC6 (io), 45 PAD (power)

## PIC18LF46K80-IPT
designator *  value PIC18LF46K80-IPT
ki_keywords: microchip microcontroller PIC18 flash ECAN XLP nanoWatt; ki_description: 64K Flash, 3.5K RAM, 1K EEPROM PIC18 Microcontroller ADC PWM CAN SPI I2C USART in TQFP44 package; ki_fp_filters: TQFP*10x10mm*P0.8mm*; Footprint: Package_QFP:TQFP-44_10x10mm_P0.8mm; Supplier: http://ww1.microchip.com/downloads/en/DeviceDoc/39977f.pdf
footprint TQFP-44_10x10mm_P0.8mm
pins: 1 RC7/CANRX/RX1/DT1/CCP4 (io), 2 RD4/ECCP1/P1A/PSP4 (io), 3 RD5/P1B/PSP5 (io), 4 RD6/TX2/CK2/P1C/PSP6 (io), 5 RD7/RX2/DT2/P1D/PSP7 (io), 6 VSS (power), 7 VDD (power), 8 AN10/FLT0/INT0/RB0 (io), 9 AN8/CTDIN/INT1/RB1 (io), 10 CANTX/CTED1/INT2/RB2 (io), 11 CANRX/CTED2/INT3/RB3 (io), 12 N/C (io), 13 N/C (io), 14 AN9/CTPLS/KBI0/RB4 (io), 15 T0CKI/T3CKI/CCP5/KBI1/RB5 (io), 16 PGC/KBI2/RB6 (io), 17 PGD/T3G/KBI3/RB7 (io), 18 ~{{MCLR}/RE3} (in), 19 CVref/AN0/ULPWU/RA0 (io), 20 AN1/C1INC/RA1 (io), 21 VREF-/AN2/C2INC/RA2 (io), 22 Vref+/AN3/RA3 (io), 23 VDDCORE/VCAP, 24 AN4/HLVDIN/T1CKI/~{{SS}/RA5} (io), 25 RE0/AN5/~{{RD}} (io), 26 RE1/AN6/C1OUT/~{{WR}} (io), 27 RE2/AN7/C2OUT/~{{CS}} (power), 28 VDD (power), 29 VSS (power), 30 OSC1/CLKIN/RA7 (in), 31 OSC2/CLKOUT/RA6 (out), 32 RC0/SOSCO/SCLKI (io), 33 N/C (io), 34 N/C (io), 35 RC1/SOSCI (io), 36 RC2/T1G/CCP2 (io), 37 RC3/REFO/SCL/SCK (io), 38 RD0/C1INA/PSP0 (io), 39 RD1/C1INB/PSP1 (io), 40 RD2/C2INA/PSP2 (io), 41 RD3/C2INB/CTMUI/PSP3 (io), 42 RC4/SDA/SDI (io), 43 RC5/SDO (io), 44 RC6/CANTX/TX1/CK1/CCP3 (io)

## PIC18LF442-IP
designator *  value PIC18LF442-IP
ki_keywords: Flash-Based 8-Bit Microcontroller; ki_description: 16K Flash, 768B SRAM, 256 EEPROM, ADC, DIP40; ki_fp_filters: DIP*W15.24mm* PDIP*W15.24mm*; Footprint: Package_DIP:DIP-40_W15.24mm; Supplier: http://ww1.microchip.com/downloads/en/DeviceDoc/39564c.pdf
footprint DIP-40_W15.24mm
pins: 1 ~{{MCLR}/VPP} (in), 2 RA0/AN0 (io), 3 RA1/AN1 (io), 4 RA2/AN2/Vref- (io), 5 RA3/AN3/Vref+ (io), 6 RA4/TOCKI (io), 7 RA5/AN4/~{{SS}/LVDIN} (io), 8 ~{{RD}/AN5/RE0} (io), 9 ~{{WR}/AN6/RE1} (io), 10 ~{{CS}/AN7/RE2} (io), 11 VDD (power), 12 VSS (power), 13 OSC1/CLKIN (in), 14 RA6/OSC2/CLKO (out), 15 T10S0/T1CKI/RC0 (io), 16 CCP2/T1OSI/RC1 (io), 17 CCP1/RC2 (io), 18 SCK/SCL/RC3 (io), 19 PSP0/RD0 (io), 20 PSP1/RD1 (io), 21 PSP2/RD2 (io), 22 PSP3/RD3 (io), 23 SDI/SDA/RC4 (io), 24 SDO/RC5 (io), 25 TX/CK/RC6 (io), 26 RX/DT/RC7 (io), 27 PSP4/RD4 (io), 28 PSP5/RD5 (io), 29 PSP6/RD6 (io), 30 PSP7/RD7 (io), 31 VSS (power), 32 VDD (power), 33 RB0/INT0 (io), 34 RB1/INT1 (io), 35 RB2/INT2 (io), 36 RB3/CCP2 (io), 37 RB4 (io), 38 RB5/PGM (io), 39 RB6/PGC (io), 40 RB7/PGD (io)

## PIC18LF442-IPT
designator *  value PIC18LF442-IPT
ki_keywords: Flash-Based 8-Bit Microcontroller; ki_description: 16K Flash, 768B SRAM, 256 EEPROM, ADC, TQFP-44; ki_fp_filters: TQFP*10x10mm*P0.8mm*; Footprint: Package_QFP:TQFP-44_10x10mm_P0.8mm; Supplier: http://ww1.microchip.com/downloads/en/DeviceDoc/39564c.pdf
footprint TQFP-44_10x10mm_P0.8mm
pins: 1 DT/RX/RC7 (io), 2 PSP4/RD4 (io), 3 PSP5/RD5 (io), 4 PSP6/RD6 (io), 5 PSP7/RD7 (io), 6 VSS (power), 7 VDD (power), 8 RB0/INT0 (io), 9 RB1/INT1 (io), 10 RB2/INT2 (io), 11 RB3/CCP2 (io), 12 NC (in) hidden, 13 NC (in) hidden, 14 RB4 (io), 15 RB5/PGM (io), 16 RB6/PGC (io), 17 RB7/PGD (io), 18 ~{{MCLR}/Vpp} (in), 19 RA0/AN0 (io), 20 RA1/AN1 (io), 21 RA2/AN2/Vref- (io), 22 RA3/AN3/Vref+ (io), 23 RA4/T0CKI (io), 24 RA5/AN4/~{{SS}/LVDin} (io), 25 ~{{RD}/AN5/RE0} (io), 26 ~{{WR}/AN6/RE1} (io), 27 ~{{CS}/AN7/RE2} (io), 28 VDD (power), 29 VSS (power), 30 OSC1/CLKI (in), 31 RA6/OSC2/CLKO (io), 32 T1OSO/T1CKI/RC0 (io), 33 NC (in) hidden, 34 NC (in) hidden, 35 T1OSI/CCP2/RC1 (io), 36 CCP1/RC2 (io), 37 SCK/SCL/RC3 (io), 38 PSP0/RD0 (io), 39 PSP1/RD1 (io), 40 PSP2/RD2 (io), 41 PSP3/RD3 (io), 42 SDI/SDA/RC4 (io), 43 SDO/RC5 (io), 44 CK/TX/RC6 (io)